# Altium schematic symbol library Library_Diana.SchLib: 310 symbols (part 3 of 3)
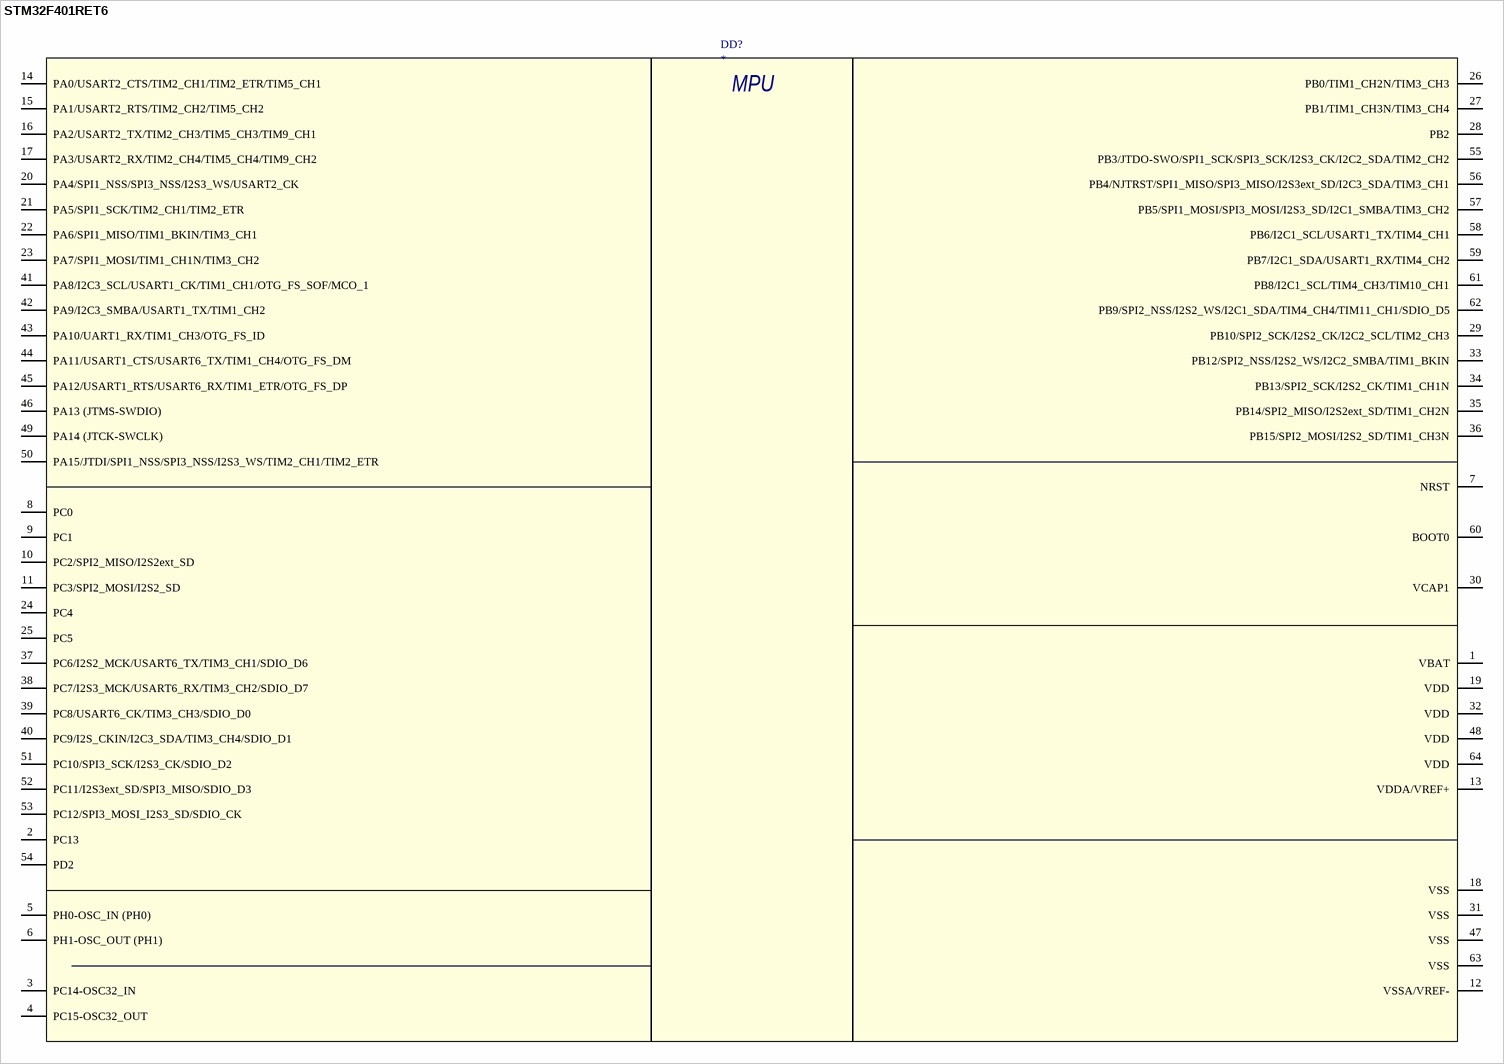
[diagram p42: symbol STM32F401RET6]

## STM32F401RET6
designator DD?
32-битный микроконтроллер
pins: 1 VBAT, 2 PC13, 3 PC14-OSC32_IN, 4 PC15-OSC32_OUT, 5 PH0-OSC_IN (PH0), 6 PH1-OSC_OUT (PH1), 7 NRST, 8 PC0, 9 PC1, 10 PC2/SPI2_MISO/I2S2ext_SD, 11 PC3/SPI2_MOSI/I2S2_SD, 12 VSSA/VREF-, 13 VDDA/VREF+, 14 PA0/USART2_CTS/TIM2_CH1/TIM2_ETR/TIM5_CH1, 15 PA1/USART2_RTS/TIM2_CH2/TIM5_CH2, 16 PA2/USART2_TX/TIM2_CH3/TIM5_CH3/TIM9_CH1, 17 PA3/USART2_RX/TIM2_CH4/TIM5_CH4/TIM9_CH2, 18 VSS, 19 VDD, 20 PA4/SPI1_NSS/SPI3_NSS/I2S3_WS/USART2_CK, 21 PA5/SPI1_SCK/TIM2_CH1/TIM2_ETR, 22 PA6/SPI1_MISO/TIM1_BKIN/TIM3_CH1, 23 PA7/SPI1_MOSI/TIM1_CH1N/TIM3_CH2, 24 PC4, 25 PC5, 26 PB0/TIM1_CH2N/TIM3_CH3, 27 PB1/TIM1_CH3N/TIM3_CH4, 28 PB2, 29 PB10/SPI2_SCK/I2S2_CK/I2C2_SCL/TIM2_CH3, 30 VCAP1, 31 VSS, 32 VDD, 33 PB12/SPI2_NSS/I2S2_WS/I2C2_SMBA/TIM1_BKIN, 34 PB13/SPI2_SCK/I2S2_CK/TIM1_CH1N, 35 PB14/SPI2_MISO/I2S2ext_SD/TIM1_CH2N, 36 PB15/SPI2_MOSI/I2S2_SD/TIM1_CH3N, 37 PC6/I2S2_MCK/USART6_TX/TIM3_CH1/SDIO_D6, 38 PC7/I2S3_MCK/USART6_RX/TIM3_CH2/SDIO_D7, 39 PC8/USART6_CK/TIM3_CH3/SDIO_D0, 40 PC9/I2S_CKIN/I2C3_SDA/TIM3_CH4/SDIO_D1, 41 PA8/I2C3_SCL/USART1_CK/TIM1_CH1/OTG_FS_SOF/MCO_1, 42 PA9/I2C3_SMBA/USART1_TX/TIM1_CH2, 43 PA10/UART1_RX/TIM1_CH3/OTG_FS_ID, 44 PA11/USART1_CTS/USART6_TX/TIM1_CH4/OTG_FS_DM, 45 PA12/USART1_RTS/USART6_RX/TIM1_ETR/OTG_FS_DP, 46 PA13 (JTMS-SWDIO), 47 VSS, 48 VDD, 49 PA14 (JTCK-SWCLK), 50 PA15/JTDI/SPI1_NSS/SPI3_NSS/I2S3_WS/TIM2_CH1/TIM2_ETR, 51 PC10/SPI3_SCK/I2S3_CK/SDIO_D2, 52 PC11/I2S3ext_SD/SPI3_MISO/SDIO_D3, 53 PC12/SPI3_MOSI_I2S3_SD/SDIO_CK, 54 PD2, 55 PB3/JTDO-SWO/SPI1_SCK/SPI3_SCK/I2S3_CK/I2C2_SDA/TIM2_CH2, 56 PB4/NJTRST/SPI1_MISO/SPI3_MISO/I2S3ext_SD/I2C3_SDA/TIM3_CH1, 57 PB5/SPI1_MOSI/SPI3_MOSI/I2S3_SD/I2C1_SMBA/TIM3_CH2, 58 PB6/I2C1_SCL/USART1_TX/TIM4_CH1, 59 PB7/I2C1_SDA/USART1_RX/TIM4_CH2, 60 BOOT0, 61 PB8/I2C1_SCL/TIM4_CH3/TIM10_CH1, 62 PB9/SPI2_NSS/I2S2_WS/I2C1_SDA/TIM4_CH4/TIM11_CH1/SDIO_D5, 63 VSS, 64 VDD
text: MPU

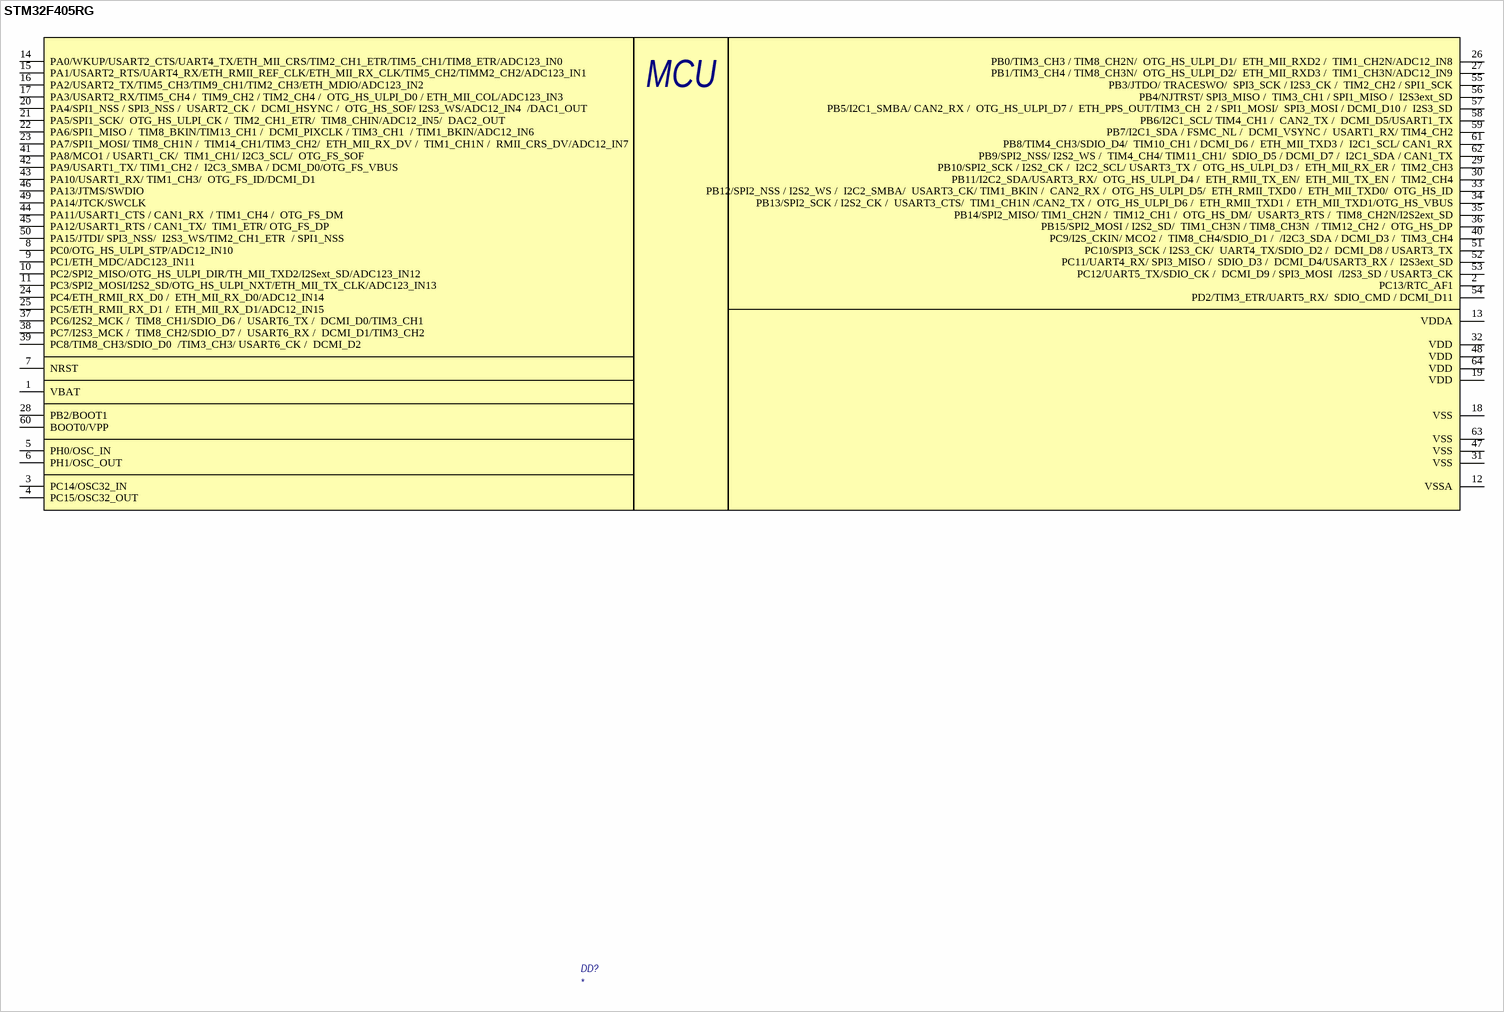
[diagram p32: symbol STM32F405RG]

## STM32F405RG
designator DD?
Микроконтроллер Cortex-M4
footprint LQFP64_L (TSQFP, 64-Leads, Body 10,00x10,00mm, Pitch 0,50mm, IPC Medium Density)
footprint LQFP64_H (64-Pin Low Profile Quad Pack 0.5 mm Pitch, IPC High Density)
pins: 1 VBAT, 2 PC13/RTC_AF1, 3 PC14/OSC32_IN, 4 PC15/OSC32_OUT, 5 PH0/OSC_IN, 6 PH1/OSC_OUT, 7 NRST, 8 PC0/OTG_HS_ULPI_STP/ADC12_IN10, 9 PC1/ETH_MDC/ADC123_IN11, 10 PC2/SPI2_MISO/OTG_HS_ULPI_DIR/TH_MII_TXD2/I2Sext_SD/ADC123_IN12, 11 PC3/SPI2_MOSI/I2S2_SD/OTG_HS_ULPI_NXT/ETH_MII_TX_CLK/ADC123_IN13, 12 VSSA, 13 VDDA, 14 PA0/WKUP/USART2_CTS/UART4_TX/ETH_MII_CRS/TIM2_CH1_ETR/TIM5_CH1/TIM8_ETR/ADC123_IN0, 15 PA1/USART2_RTS/UART4_RX/ETH_RMII_REF_CLK/ETH_MII_RX_CLK/TIM5_CH2/TIMM2_CH2/ADC123_IN1, 16 PA2/USART2_TX/TIM5_CH3/TIM9_CH1/TIM2_CH3/ETH_MDIO/ADC123_IN2, 17 PA3/USART2_RX/TIM5_CH4 /  TIM9_CH2 / TIM2_CH4 /  OTG_HS_ULPI_D0 / ETH_MII_COL/ADC123_IN3, 18 VSS, 19 VDD, 20 PA4/SPI1_NSS / SPI3_NSS /  USART2_CK /  DCMI_HSYNC /  OTG_HS_SOF/ I2S3_WS/ADC12_IN4  /DAC1_OUT, 21 PA5/SPI1_SCK/  OTG_HS_ULPI_CK /  TIM2_CH1_ETR/  TIM8_CHIN/ADC12_IN5/  DAC2_OUT, 22 PA6/SPI1_MISO /  TIM8_BKIN/TIM13_CH1 /  DCMI_PIXCLK / TIM3_CH1  / TIM1_BKIN/ADC12_IN6, 23 PA7/SPI1_MOSI/ TIM8_CH1N /  TIM14_CH1/TIM3_CH2/  ETH_MII_RX_DV /  TIM1_CH1N /  RMII_CRS_DV/ADC12_IN7, 24 PC4/ETH_RMII_RX_D0 /  ETH_MII_RX_D0/ADC12_IN14, 25 PC5/ETH_RMII_RX_D1 /  ETH_MII_RX_D1/ADC12_IN15, 26 PB0/TIM3_CH3 / TIM8_CH2N/  OTG_HS_ULPI_D1/  ETH_MII_RXD2 /  TIM1_CH2N/ADC12_IN8, 27 PB1/TIM3_CH4 / TIM8_CH3N/  OTG_HS_ULPI_D2/  ETH_MII_RXD3 /  TIM1_CH3N/ADC12_IN9, 28 PB2/BOOT1, 29 PB10/SPI2_SCK / I2S2_CK /  I2C2_SCL/ USART3_TX /  OTG_HS_ULPI_D3 /  ETH_MII_RX_ER /  TIM2_CH3, 30 PB11/I2C2_SDA/USART3_RX/  OTG_HS_ULPI_D4 /  ETH_RMII_TX_EN/  ETH_MII_TX_EN /  TIM2_CH4, 31 VSS, 32 VDD, 33 PB12/SPI2_NSS / I2S2_WS /  I2C2_SMBA/  USART3_CK/ TIM1_BKIN /  CAN2_RX /  OTG_HS_ULPI_D5/  ETH_RMII_TXD0 /  ETH_MII_TXD0/  OTG_HS_ID, 34 PB13/SPI2_SCK / I2S2_CK /  USART3_CTS/  TIM1_CH1N /CAN2_TX /  OTG_HS_ULPI_D6 /  ETH_RMII_TXD1 /  ETH_MII_TXD1/OTG_HS_VBUS, 35 PB14/SPI2_MISO/ TIM1_CH2N /  TIM12_CH1 /  OTG_HS_DM/  USART3_RTS /  TIM8_CH2N/I2S2ext_SD, 36 PB15/SPI2_MOSI / I2S2_SD/  TIM1_CH3N / TIM8_CH3N  / TIM12_CH2 /  OTG_HS_DP, 37 PC6/I2S2_MCK /  TIM8_CH1/SDIO_D6 /  USART6_TX /  DCMI_D0/TIM3_CH1, 38 PC7/I2S3_MCK /  TIM8_CH2/SDIO_D7 /  USART6_RX /  DCMI_D1/TIM3_CH2, 39 PC8/TIM8_CH3/SDIO_D0  /TIM3_CH3/ USART6_CK /  DCMI_D2, 40 PC9/I2S_CKIN/ MCO2 /  TIM8_CH4/SDIO_D1 /  /I2C3_SDA / DCMI_D3 /  TIM3_CH4, 41 PA8/MCO1 / USART1_CK/  TIM1_CH1/ I2C3_SCL/  OTG_FS_SOF, 42 PA9/USART1_TX/ TIM1_CH2 /  I2C3_SMBA / DCMI_D0/OTG_FS_VBUS, 43 PA10/USART1_RX/ TIM1_CH3/  OTG_FS_ID/DCMI_D1, 44 PA11/USART1_CTS / CAN1_RX  / TIM1_CH4 /  OTG_FS_DM, 45 PA12/USART1_RTS / CAN1_TX/  TIM1_ETR/ OTG_FS_DP, 46 PA13/JTMS/SWDIO, 47 VSS, 48 VDD, 49 PA14/JTCK/SWCLK, 50 PA15/JTDI/ SPI3_NSS/  I2S3_WS/TIM2_CH1_ETR  / SPI1_NSS, 51 PC10/SPI3_SCK / I2S3_CK/  UART4_TX/SDIO_D2 /  DCMI_D8 / USART3_TX, 52 PC11/UART4_RX/ SPI3_MISO /  SDIO_D3 /  DCMI_D4/USART3_RX /  I2S3ext_SD, 53 PC12/UART5_TX/SDIO_CK /  DCMI_D9 / SPI3_MOSI  /I2S3_SD / USART3_CK, 54 PD2/TIM3_ETR/UART5_RX/  SDIO_CMD / DCMI_D11, 55 PB3/JTDO/ TRACESWO/  SPI3_SCK / I2S3_CK /  TIM2_CH2 / SPI1_SCK, 56 PB4/NJTRST/ SPI3_MISO /  TIM3_CH1 / SPI1_MISO /  I2S3ext_SD, 57 PB5/I2C1_SMBA/ CAN2_RX /  OTG_HS_ULPI_D7 /  ETH_PPS_OUT/TIM3_CH  2 / SPI1_MOSI/  SPI3_MOSI / DCMI_D10 /  I2S3_SD, 58 PB6/I2C1_SCL/ TIM4_CH1 /  CAN2_TX /  DCMI_D5/USART1_TX, 59 PB7/I2C1_SDA / FSMC_NL /  DCMI_VSYNC /  USART1_RX/ TIM4_CH2, 60 BOOT0/VPP, 61 PB8/TIM4_CH3/SDIO_D4/  TIM10_CH1 / DCMI_D6 /  ETH_MII_TXD3 /  I2C1_SCL/ CAN1_RX, 62 PB9/SPI2_NSS/ I2S2_WS /  TIM4_CH4/ TIM11_CH1/  SDIO_D5 / DCMI_D7 /  I2C1_SDA / CAN1_TX, 63 VSS, 64 VDD
text: MCU

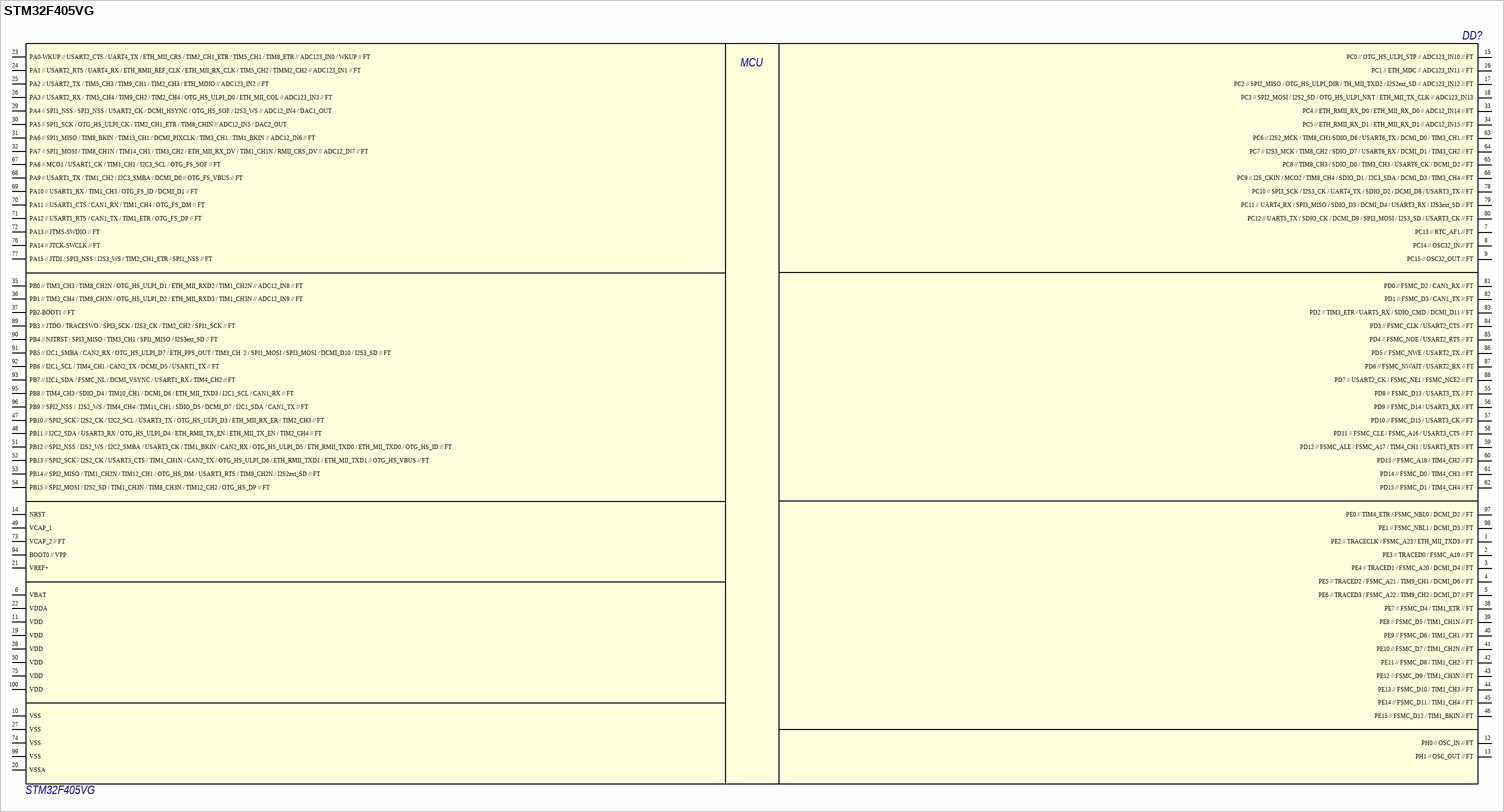
[diagram p33: symbol STM32F405VG]

## STM32F405VG
designator DD?
Manufacture: STMicroelectronics; Name: STM32F405VG; Package: LQFP100
footprint LQFP100_A
pins: 1 PE2 // TRACECLK / FSMC_A23 / ETH_MII_TXD3 // FT, 2 PE3 // TRACED0 / FSMC_A19 // FT, 3 PE4 // TRACED1 / FSMC_A20 / DCMI_D4 // FT, 4 PE5 // TRACED2 / FSMC_A21 / TIM9_CH1 / DCMI_D6 // FT, 5 PE6 // TRACED3 / FSMC_A22 / TIM9_CH2 / DCMI_D7 // FT, 6 VBAT, 7 PC13 // RTC_AF1 // FT, 8 PC14 // OSC32_IN // FT, 9 PC15 // OSC32_OUT // FT, 10 VSS, 11 VDD, 12 PH0 // OSC_IN // FT, 13 PH1 // OSC_OUT // FT, 14 NRST, 15 PC0 // OTG_HS_ULPI_STP // ADC123_IN10 // FT, 16 PC1 // ETH_MDC // ADC123_IN11 // FT, 17 PC2 // SPI2_MISO / OTG_HS_ULPI_DIR / TH_MII_TXD2 / I2S2ext_SD // ADC123_IN12 // FT, 18 PC3 // SPI2_MOSI / I2S2_SD / OTG_HS_ULPI_NXT / ETH_MII_TX_CLK // ADC123_IN13, 19 VDD, 20 VSSA, 21 VREF+, 22 VDDA, 23 PA0-WKUP // USART2_CTS / UART4_TX / ETH_MII_CRS / TIM2_CH1_ETR / TIM5_CH1 / TIM8_ETR // ADC123_IN0 / WKUP // FT, 24 PA1 // USART2_RTS / UART4_RX / ETH_RMII_REF_CLK / ETH_MII_RX_CLK / TIM5_CH2 / TIMM2_CH2 // ADC123_IN1 // FT, 25 PA2 // USART2_TX / TIM5_CH3 / TIM9_CH1 / TIM2_CH3 / ETH_MDIO // ADC123_IN2 // FT, 26 PA3 // USART2_RX / TIM5_CH4 / TIM9_CH2 / TIM2_CH4 / OTG_HS_ULPI_D0 / ETH_MII_COL // ADC123_IN3 // FT, 27 VSS, 28 VDD, 29 PA4 // SPI1_NSS / SPI3_NSS / USART2_CK / DCMI_HSYNC / OTG_HS_SOF / I2S3_WS // ADC12_IN4 / DAC1_OUT, 30 PA5 // SPI1_SCK / OTG_HS_ULPI_CK / TIM2_CH1_ETR / TIM8_CHIN // ADC12_IN5 / DAC2_OUT, 31 PA6 // SPI1_MISO / TIM8_BKIN / TIM13_CH1 / DCMI_PIXCLK / TIM3_CH1 / TIM1_BKIN // ADC12_IN6 // FT, 32 PA7 // SPI1_MOSI / TIM8_CH1N / TIM14_CH1 / TIM3_CH2 / ETH_MII_RX_DV / TIM1_CH1N / RMII_CRS_DV // ADC12_IN7 // FT, 33 PC4 // ETH_RMII_RX_D0 / ETH_MII_RX_D0 // ADC12_IN14 // FT, 34 PC5 // ETH_RMII_RX_D1 / ETH_MII_RX_D1 // ADC12_IN15 // FT, 35 PB0 // TIM3_CH3 / TIM8_CH2N / OTG_HS_ULPI_D1 / ETH_MII_RXD2 / TIM1_CH2N // ADC12_IN8 // FT, 36 PB1 // TIM3_CH4 / TIM8_CH3N / OTG_HS_ULPI_D2 / ETH_MII_RXD3 / TIM1_CH3N // ADC12_IN9 // FT, 37 PB2-BOOT1 // FT, 38 PE7 // FSMC_D4 / TIM1_ETR // FT, 39 PE8 // FSMC_D5 / TIM1_CH1N // FT, 40 PE9 // FSMC_D6 / TIM1_CH1 // FT, 41 PE10 // FSMC_D7 / TIM1_CH2N // FT, 42 PE11 // FSMC_D8 / TIM1_CH2 // FT, 43 PE12 // FSMC_D9 / TIM1_CH3N // FT, 44 PE13 // FSMC_D10 / TIM1_CH3 // FT, 45 PE14 // FSMC_D11 / TIM1_CH4 // FT, 46 PE15 // FSMC_D12 / TIM1_BKIN // FT, 47 PB10 // SPI2_SCK / I2S2_CK / I2C2_SCL / USART3_TX / OTG_HS_ULPI_D3 / ETH_MII_RX_ER / TIM2_CH3 // FT, 48 PB11 // I2C2_SDA / USART3_RX / OTG_HS_ULPI_D4 / ETH_RMII_TX_EN / ETH_MII_TX_EN / TIM2_CH4 // FT, 49 VCAP_1, 50 VDD, 51 PB12 // SPI2_NSS / I2S2_WS / I2C2_SMBA / USART3_CK / TIM1_BKIN / CAN2_RX / OTG_HS_ULPI_D5 / ETH_RMII_TXD0 / ETH_MII_TXD0 / OTG_HS_ID // FT, 52 PB13 // SPI2_SCK / I2S2_CK / USART3_CTS / TIM1_CH1N / CAN2_TX / OTG_HS_ULPI_D6 / ETH_RMII_TXD1 / ETH_MII_TXD1 // OTG_HS_VBUS // FT, 53 PB14 // SPI2_MISO / TIM1_CH2N / TIM12_CH1 / OTG_HS_DM / USART3_RTS / TIM8_CH2N / I2S2ext_SD // FT, 54 PB15 // SPI2_MOSI / I2S2_SD / TIM1_CH3N / TIM8_CH3N / TIM12_CH2 / OTG_HS_DP // FT, 55 PD8 // FSMC_D13 / USART3_TX // FT, 56 PD9 // FSMC_D14 / USART3_RX // FT, 57 PD10 // FSMC_D15 / USART3_CK // FT, 58 PD11 // FSMC_CLE / FSMC_A16 / USART3_CTS // FT, 59 PD12 // FSMC_ALE / FSMC_A17 / TIM4_CH1 / USART3_RTS // FT, 60 PD13 // FSMC_A18 / TIM4_CH2 // FT, 61 PD14 // FSMC_D0 / TIM4_CH3 // FT, 62 PD15 // FSMC_D1 / TIM4_CH4 // FT, 63 PC6 // I2S2_MCK / TIM8_CH1/SDIO_D6 / USART6_TX / DCMI_D0 / TIM3_CH1 // FT, 64 PC7 // I2S3_MCK / TIM8_CH2 / SDIO_D7 / USART6_RX / DCMI_D1 / TIM3_CH2 // FT, 65 PC8 // TIM8_CH3 / SDIO_D0 / TIM3_CH3 / USART6_CK / DCMI_D2 // FT, 66 PC9 // I2S_CKIN / MCO2 / TIM8_CH4 / SDIO_D1 / I2C3_SDA / DCMI_D3 / TIM3_CH4 // FT, 67 PA8 // MCO1 / USART1_CK / TIM1_CH1 / I2C3_SCL / OTG_FS_SOF // FT, 68 PA9 // USART1_TX / TIM1_CH2 / I2C3_SMBA / DCMI_D0 // OTG_FS_VBUS // FT, 69 PA10 // USART1_RX / TIM1_CH3 / OTG_FS_ID / DCMI_D1 // FT, 70 PA11 // USART1_CTS / CAN1_RX / TIM1_CH4 / OTG_FS_DM // FT, 71 PA12 // USART1_RTS / CAN1_TX / TIM1_ETR / OTG_FS_DP // FT, 72 PA13 // JTMS-SWDIO // FT, 73 VCAP_2 // FT, 74 VSS, 75 VDD, 76 PA14 // JTCK-SWCLK // FT, 77 PA15 // JTDI / SPI3_NSS / I2S3_WS / TIM2_CH1_ETR / SPI1_NSS // FT, 78 PC10 // SPI3_SCK / I2S3_CK / UART4_TX / SDIO_D2 / DCMI_D8 / USART3_TX // FT, 79 PC11 // UART4_RX / SPI3_MISO / SDIO_D3 / DCMI_D4 / USART3_RX / I2S3ext_SD // FT, 80 PC12 // UART5_TX / SDIO_CK / DCMI_D9 / SPI3_MOSI / I2S3_SD / USART3_CK // FT, 81 PD0 // FSMC_D2 / CAN1_RX // FT, 82 PD1 // FSMC_D3 / CAN1_TX // FT, 83 PD2 // TIM3_ETR / UART5_RX / SDIO_CMD / DCMI_D11 // FT, 84 PD3 // FSMC_CLK / USART2_CTS // FT, 85 PD4 // FSMC_NOE / USART2_RTS // FT, 86 PD5 // FSMC_NWE / USART2_TX // FT, 87 PD6 // FSMC_NWAIT / USART2_RX // FT, 88 PD7 // USART2_CK / FSMC_NE1 / FSMC_NCE2 // FT, 89 PB3 // JTDO / TRACESWO / SPI3_SCK / I2S3_CK / TIM2_CH2 / SPI1_SCK // FT, 90 PB4 // NJTRST / SPI3_MISO / TIM3_CH1 / SPI1_MISO / I2S3ext_SD // FT, 91 PB5 // I2C1_SMBA / CAN2_RX / OTG_HS_ULPI_D7 / ETH_PPS_OUT / TIM3_CH  2 / SPI1_MOSI / SPI3_MOSI / DCMI_D10 / I2S3_SD // FT, 92 PB6 // I2C1_SCL / TIM4_CH1 / CAN2_TX / DCMI_D5 / USART1_TX // FT, 93 PB7 // I2C1_SDA / FSMC_NL / DCMI_VSYNC / USART1_RX / TIM4_CH2 // FT, 94 BOOT0 // VPP, 95 PB8 // TIM4_CH3 / SDIO_D4 / TIM10_CH1 / DCMI_D6 / ETH_MII_TXD3 / I2C1_SCL / CAN1_RX // FT, 96 PB9 // SPI2_NSS /  I2S2_WS / TIM4_CH4 / TIM11_CH1 / SDIO_D5 / DCMI_D7 / I2C1_SDA / CAN1_TX // FT, 97 PE0 // TIM4_ETR / FSMC_NBL0 / DCMI_D2 // FT, 98 PE1 // FSMC_NBL1 / DCMI_D3 // FT, 99 VSS, 100 VDD
text: MCU

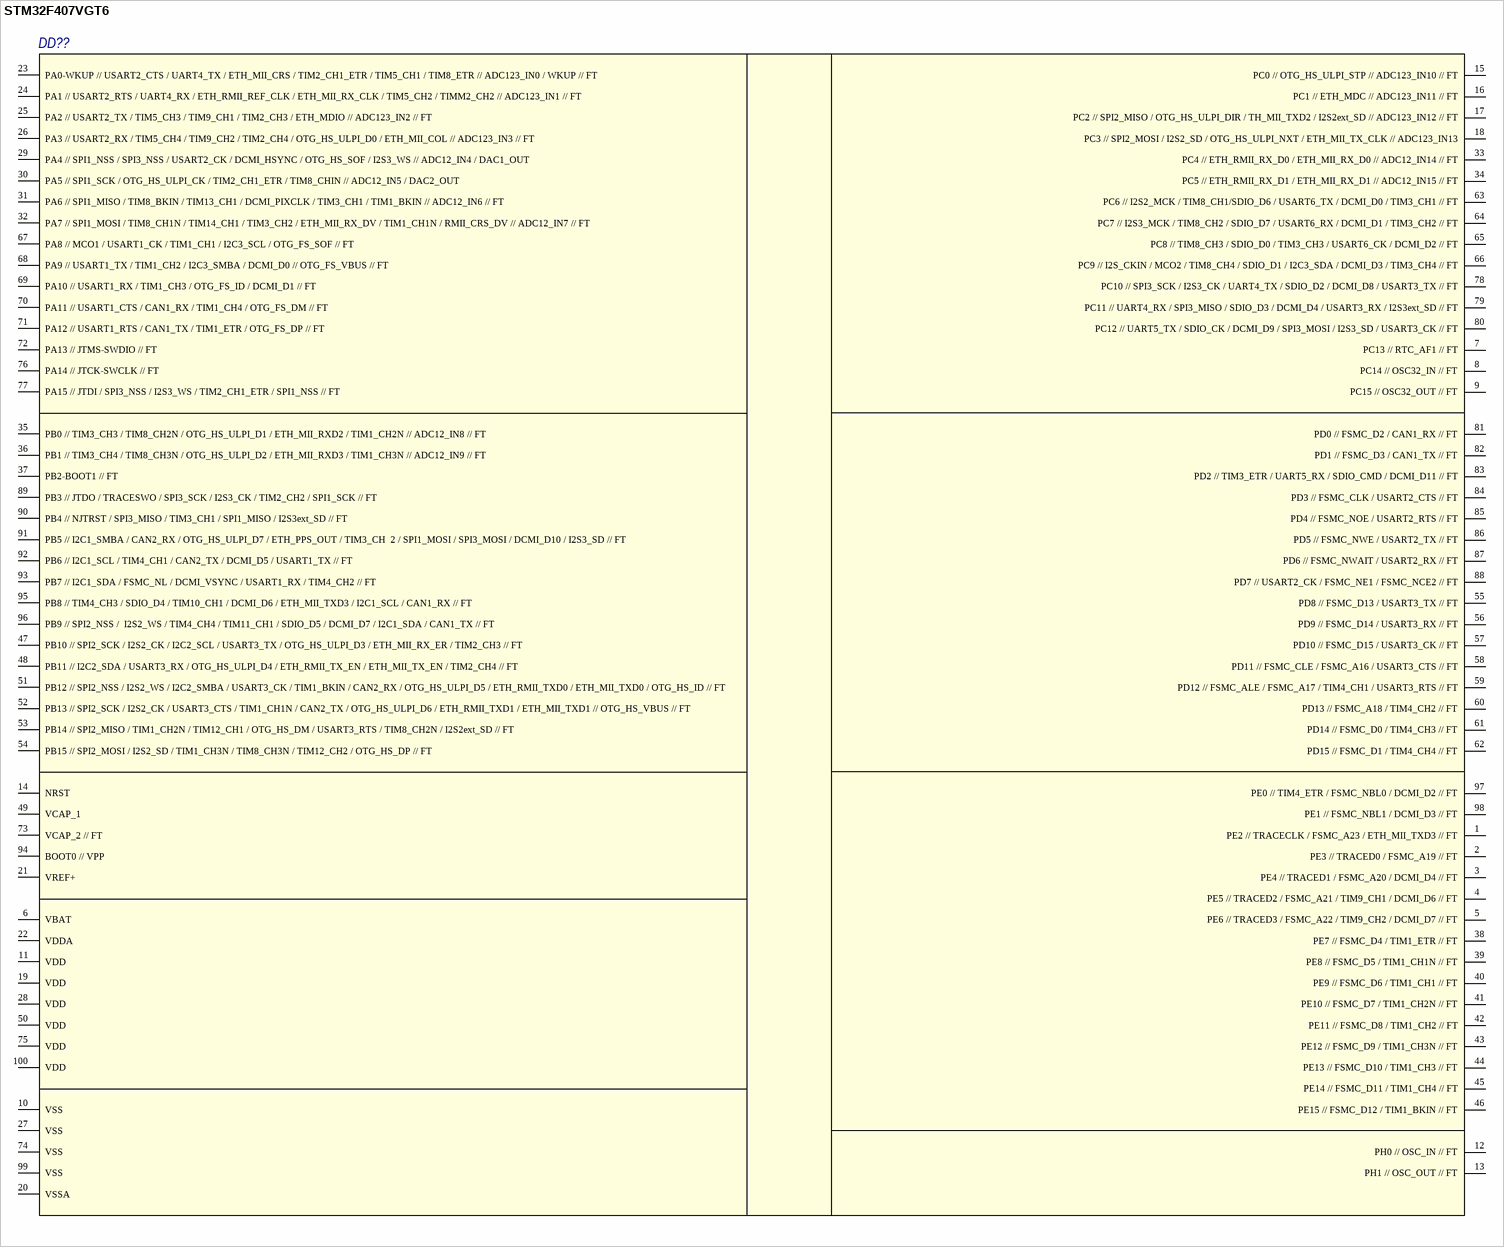
[diagram p34: symbol STM32F407VGT6]

## STM32F407VGT6
designator DD??
Микроконтроллер
footprint LQPF100_A
footprint LQPF100_H
pins: 1 PE2 // TRACECLK / FSMC_A23 / ETH_MII_TXD3 // FT, 2 PE3 // TRACED0 / FSMC_A19 // FT, 3 PE4 // TRACED1 / FSMC_A20 / DCMI_D4 // FT, 4 PE5 // TRACED2 / FSMC_A21 / TIM9_CH1 / DCMI_D6 // FT, 5 PE6 // TRACED3 / FSMC_A22 / TIM9_CH2 / DCMI_D7 // FT, 6 VBAT, 7 PC13 // RTC_AF1 // FT, 8 PC14 // OSC32_IN // FT, 9 PC15 // OSC32_OUT // FT, 10 VSS, 11 VDD, 12 PH0 // OSC_IN // FT, 13 PH1 // OSC_OUT // FT, 14 NRST, 15 PC0 // OTG_HS_ULPI_STP // ADC123_IN10 // FT, 16 PC1 // ETH_MDC // ADC123_IN11 // FT, 17 PC2 // SPI2_MISO / OTG_HS_ULPI_DIR / TH_MII_TXD2 / I2S2ext_SD // ADC123_IN12 // FT, 18 PC3 // SPI2_MOSI / I2S2_SD / OTG_HS_ULPI_NXT / ETH_MII_TX_CLK // ADC123_IN13, 19 VDD, 20 VSSA, 21 VREF+, 22 VDDA, 23 PA0-WKUP // USART2_CTS / UART4_TX / ETH_MII_CRS / TIM2_CH1_ETR / TIM5_CH1 / TIM8_ETR // ADC123_IN0 / WKUP // FT , 24 PA1 // USART2_RTS / UART4_RX / ETH_RMII_REF_CLK / ETH_MII_RX_CLK / TIM5_CH2 / TIMM2_CH2 // ADC123_IN1 // FT, 25 PA2 // USART2_TX / TIM5_CH3 / TIM9_CH1 / TIM2_CH3 / ETH_MDIO // ADC123_IN2 // FT, 26 PA3 // USART2_RX / TIM5_CH4 / TIM9_CH2 / TIM2_CH4 / OTG_HS_ULPI_D0 / ETH_MII_COL // ADC123_IN3 // FT, 27 VSS, 28 VDD, 29 PA4 // SPI1_NSS / SPI3_NSS / USART2_CK / DCMI_HSYNC / OTG_HS_SOF / I2S3_WS // ADC12_IN4 / DAC1_OUT , 30 PA5 // SPI1_SCK / OTG_HS_ULPI_CK / TIM2_CH1_ETR / TIM8_CHIN // ADC12_IN5 / DAC2_OUT, 31 PA6 // SPI1_MISO / TIM8_BKIN / TIM13_CH1 / DCMI_PIXCLK / TIM3_CH1 / TIM1_BKIN // ADC12_IN6 // FT, 32 PA7 // SPI1_MOSI / TIM8_CH1N / TIM14_CH1 / TIM3_CH2 / ETH_MII_RX_DV / TIM1_CH1N / RMII_CRS_DV // ADC12_IN7 // FT, 33 PC4 // ETH_RMII_RX_D0 / ETH_MII_RX_D0 // ADC12_IN14 // FT, 34 PC5 // ETH_RMII_RX_D1 / ETH_MII_RX_D1 // ADC12_IN15 // FT, 35 PB0 // TIM3_CH3 / TIM8_CH2N / OTG_HS_ULPI_D1 / ETH_MII_RXD2 / TIM1_CH2N // ADC12_IN8 // FT, 36 PB1 // TIM3_CH4 / TIM8_CH3N / OTG_HS_ULPI_D2 / ETH_MII_RXD3 / TIM1_CH3N // ADC12_IN9 // FT, 37 PB2-BOOT1 // FT, 38 PE7 // FSMC_D4 / TIM1_ETR // FT, 39 PE8 // FSMC_D5 / TIM1_CH1N // FT, 40 PE9 // FSMC_D6 / TIM1_CH1 // FT, 41 PE10 // FSMC_D7 / TIM1_CH2N // FT, 42 PE11 // FSMC_D8 / TIM1_CH2 // FT, 43 PE12 // FSMC_D9 / TIM1_CH3N // FT, 44 PE13 // FSMC_D10 / TIM1_CH3 // FT, 45 PE14 // FSMC_D11 / TIM1_CH4 // FT, 46 PE15 // FSMC_D12 / TIM1_BKIN // FT, 47 PB10 // SPI2_SCK / I2S2_CK / I2C2_SCL / USART3_TX / OTG_HS_ULPI_D3 / ETH_MII_RX_ER / TIM2_CH3 // FT, 48 PB11 // I2C2_SDA / USART3_RX / OTG_HS_ULPI_D4 / ETH_RMII_TX_EN / ETH_MII_TX_EN / TIM2_CH4 // FT, 49 VCAP_1, 50 VDD, 51 PB12 // SPI2_NSS / I2S2_WS / I2C2_SMBA / USART3_CK / TIM1_BKIN / CAN2_RX / OTG_HS_ULPI_D5 / ETH_RMII_TXD0 / ETH_MII_TXD0 / OTG_HS_ID // FT, 52 PB13 // SPI2_SCK / I2S2_CK / USART3_CTS / TIM1_CH1N / CAN2_TX / OTG_HS_ULPI_D6 / ETH_RMII_TXD1 / ETH_MII_TXD1 // OTG_HS_VBUS // FT, 53 PB14 // SPI2_MISO / TIM1_CH2N / TIM12_CH1 / OTG_HS_DM / USART3_RTS / TIM8_CH2N / I2S2ext_SD // FT, 54 PB15 // SPI2_MOSI / I2S2_SD / TIM1_CH3N / TIM8_CH3N / TIM12_CH2 / OTG_HS_DP // FT, 55 PD8 // FSMC_D13 / USART3_TX // FT, 56 PD9 // FSMC_D14 / USART3_RX // FT, 57 PD10 // FSMC_D15 / USART3_CK // FT, 58 PD11 // FSMC_CLE / FSMC_A16 / USART3_CTS // FT, 59 PD12 // FSMC_ALE / FSMC_A17 / TIM4_CH1 / USART3_RTS // FT, 60 PD13 // FSMC_A18 / TIM4_CH2 // FT, 61 PD14 // FSMC_D0 / TIM4_CH3 // FT, 62 PD15 // FSMC_D1 / TIM4_CH4 // FT, 63 PC6 // I2S2_MCK / TIM8_CH1/SDIO_D6 / USART6_TX / DCMI_D0 / TIM3_CH1 // FT, 64 PC7 // I2S3_MCK / TIM8_CH2 / SDIO_D7 / USART6_RX / DCMI_D1 / TIM3_CH2 // FT, 65 PC8 // TIM8_CH3 / SDIO_D0 / TIM3_CH3 / USART6_CK / DCMI_D2 // FT, 66 PC9 // I2S_CKIN / MCO2 / TIM8_CH4 / SDIO_D1 / I2C3_SDA / DCMI_D3 / TIM3_CH4 // FT, 67 PA8 // MCO1 / USART1_CK / TIM1_CH1 / I2C3_SCL / OTG_FS_SOF // FT, 68 PA9 // USART1_TX / TIM1_CH2 / I2C3_SMBA / DCMI_D0 // OTG_FS_VBUS // FT , 69 PA10 // USART1_RX / TIM1_CH3 / OTG_FS_ID / DCMI_D1 // FT, 70 PA11 // USART1_CTS / CAN1_RX / TIM1_CH4 / OTG_FS_DM // FT, 71 PA12 // USART1_RTS / CAN1_TX / TIM1_ETR / OTG_FS_DP // FT, 72 PA13 // JTMS-SWDIO // FT, 73 VCAP_2 // FT, 74 VSS, 75 VDD, 76 PA14 // JTCK-SWCLK // FT, 77 PA15 // JTDI / SPI3_NSS / I2S3_WS / TIM2_CH1_ETR / SPI1_NSS // FT, 78 PC10 // SPI3_SCK / I2S3_CK / UART4_TX / SDIO_D2 / DCMI_D8 / USART3_TX // FT, 79 PC11 // UART4_RX / SPI3_MISO / SDIO_D3 / DCMI_D4 / USART3_RX / I2S3ext_SD // FT, 80 PC12 // UART5_TX / SDIO_CK / DCMI_D9 / SPI3_MOSI / I2S3_SD / USART3_CK // FT, 81 PD0 // FSMC_D2 / CAN1_RX // FT, 82 PD1 // FSMC_D3 / CAN1_TX // FT, 83 PD2 // TIM3_ETR / UART5_RX / SDIO_CMD / DCMI_D11 // FT, 84 PD3 // FSMC_CLK / USART2_CTS // FT, 85 PD4 // FSMC_NOE / USART2_RTS // FT, 86 PD5 // FSMC_NWE / USART2_TX // FT, 87 PD6 // FSMC_NWAIT / USART2_RX // FT, 88 PD7 // USART2_CK / FSMC_NE1 / FSMC_NCE2 // FT, 89 PB3 // JTDO / TRACESWO / SPI3_SCK / I2S3_CK / TIM2_CH2 / SPI1_SCK // FT, 90 PB4 // NJTRST / SPI3_MISO / TIM3_CH1 / SPI1_MISO / I2S3ext_SD // FT, 91 PB5 // I2C1_SMBA / CAN2_RX / OTG_HS_ULPI_D7 / ETH_PPS_OUT / TIM3_CH  2 / SPI1_MOSI / SPI3_MOSI / DCMI_D10 / I2S3_SD // FT, 92 PB6 // I2C1_SCL / TIM4_CH1 / CAN2_TX / DCMI_D5 / USART1_TX // FT, 93 PB7 // I2C1_SDA / FSMC_NL / DCMI_VSYNC / USART1_RX / TIM4_CH2 // FT, 94 BOOT0 // VPP, 95 PB8 // TIM4_CH3 / SDIO_D4 / TIM10_CH1 / DCMI_D6 / ETH_MII_TXD3 / I2C1_SCL / CAN1_RX // FT, 96 PB9 // SPI2_NSS /  I2S2_WS / TIM4_CH4 / TIM11_CH1 / SDIO_D5 / DCMI_D7 / I2C1_SDA / CAN1_TX // FT, 97 PE0 // TIM4_ETR / FSMC_NBL0 / DCMI_D2 // FT, 98 PE1 // FSMC_NBL1 / DCMI_D3 // FT, 99 VSS, 100 VDD

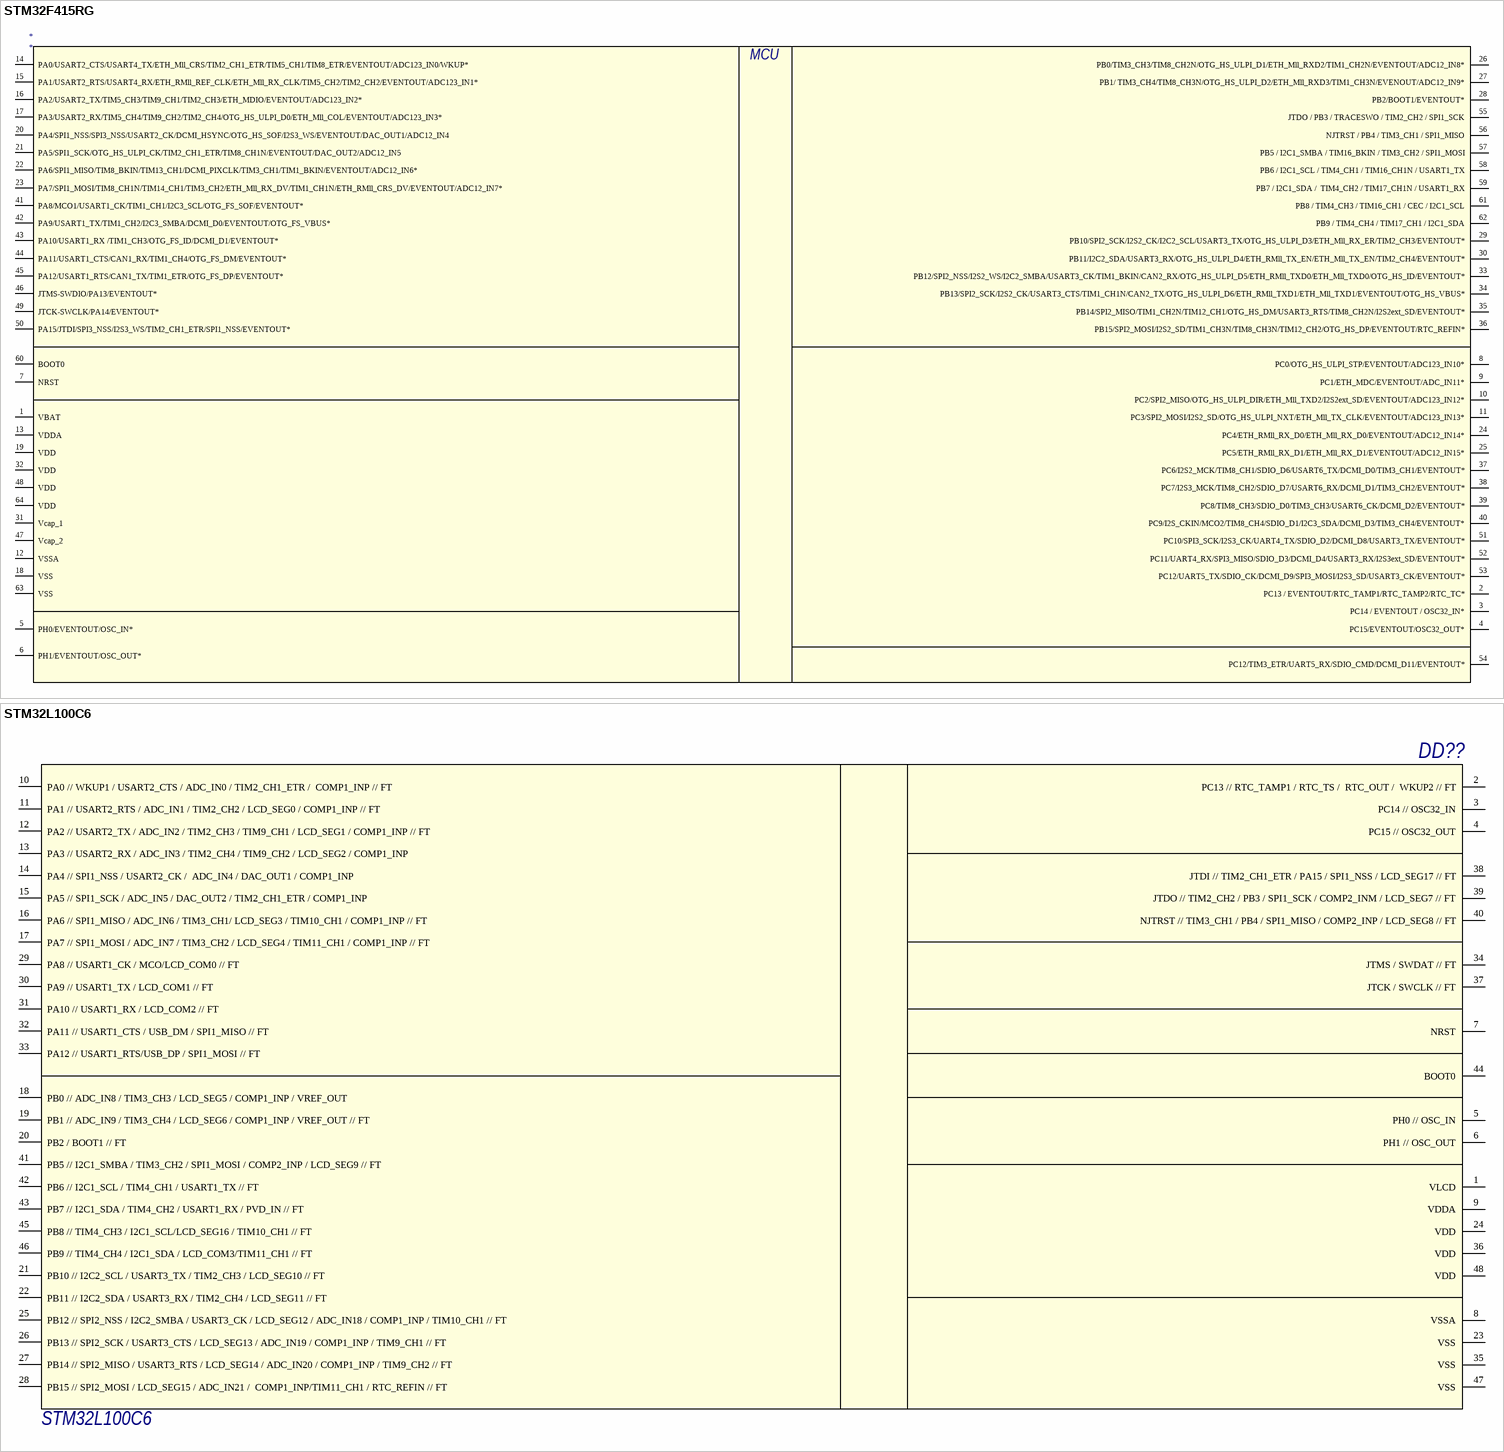
[diagram p35: symbols STM32F415RG to STM32L100C6]

## STM32F415RG
designator *
Микроконтроллер
footprint LQFP64_L (TSQFP, 64-Leads, Body 10,00x10,00mm, Pitch 0,50mm, IPC Medium Density)
footprint LQFP64_H (64-Pin Low Profile Quad Pack 0.5 mm Pitch, IPC High Density)
pins: 1 VBAT, 2 PC13 / EVENTOUT/RTC_TAMP1/RTC_TAMP2/RTC_TC*, 3 PC14 / EVENTOUT / OSC32_IN*, 4 PC15/EVENTOUT/OSC32_OUT*, 5 PH0/EVENTOUT/OSC_IN*, 6 PH1/EVENTOUT/OSC_OUT*, 7 NRST, 8 PC0/OTG_HS_ULPI_STP/EVENTOUT/ADC123_IN10*, 9 PC1/ETH_MDC/EVENTOUT/ADC_IN11*, 10 PC2/SPI2_MISO/OTG_HS_ULPI_DIR/ETH_Mll_TXD2/I2S2ext_SD/EVENTOUT/ADC123_IN12*, 11 PC3/SPI2_MOSI/I2S2_SD/OTG_HS_ULPI_NXT/ETH_Mll_TX_CLK/EVENTOUT/ADC123_IN13*, 12 VSSA, 13 VDDA, 14 PA0/USART2_CTS/USART4_TX/ETH_Mll_CRS/TIM2_CH1_ETR/TIM5_CH1/TIM8_ETR/EVENTOUT/ADC123_IN0/WKUP*, 15 PA1/USART2_RTS/USART4_RX/ETH_RMll_REF_CLK/ETH_Mll_RX_CLK/TIM5_CH2/TIM2_CH2/EVENTOUT/ADC123_IN1*, 16 PA2/USART2_TX/TIM5_CH3/TIM9_CH1/TIM2_CH3/ETH_MDIO/EVENTOUT/ADC123_IN2*, 17 PA3/USART2_RX/TIM5_CH4/TIM9_CH2/TIM2_CH4/OTG_HS_ULPI_D0/ETH_Mll_COL/EVENTOUT/ADC123_IN3*, 18 VSS, 19 VDD, 20 PA4/SPI1_NSS/SPI3_NSS/USART2_CK/DCMI_HSYNC/OTG_HS_SOF/I2S3_WS/EVENTOUT/DAC_OUT1/ADC12_IN4, 21 PA5/SPI1_SCK/OTG_HS_ULPI_CK/TIM2_CH1_ETR/TIM8_CH1N/EVENTOUT/DAC_OUT2/ADC12_IN5, 22 PA6/SPI1_MISO/TIM8_BKIN/TIM13_CH1/DCMI_PIXCLK/TIM3_CH1/TIM1_BKIN/EVENTOUT/ADC12_IN6*, 23 PA7/SPI1_MOSI/TIM8_CH1N/TIM14_CH1/TIM3_CH2/ETH_Mll_RX_DV/TIM1_CH1N/ETH_RMll_CRS_DV/EVENTOUT/ADC12_IN7*, 24 PC4/ETH_RMll_RX_D0/ETH_Mll_RX_D0/EVENTOUT/ADC12_IN14*, 25 PC5/ETH_RMll_RX_D1/ETH_Mll_RX_D1/EVENTOUT/ADC12_IN15*, 26 PB0/TIM3_CH3/TIM8_CH2N/OTG_HS_ULPI_D1/ETH_Mll_RXD2/TIM1_CH2N/EVENTOUT/ADC12_IN8*, 27 PB1/ TIM3_CH4/TIM8_CH3N/OTG_HS_ULPI_D2/ETH_Mll_RXD3/TIM1_CH3N/EVENOUT/ADC12_IN9*, 28 PB2/BOOT1/EVENTOUT*, 29 PB10/SPI2_SCK/I2S2_CK/I2C2_SCL/USART3_TX/OTG_HS_ULPI_D3/ETH_Mll_RX_ER/TIM2_CH3/EVENTOUT*, 30 PB11/I2C2_SDA/USART3_RX/OTG_HS_ULPI_D4/ETH_RMll_TX_EN/ETH_Mll_TX_EN/TIM2_CH4/EVENTOUT*, 31 Vcap_1, 32 VDD, 33 PB12/SPI2_NSS/I2S2_WS/I2C2_SMBA/USART3_CK/TIM1_BKIN/CAN2_RX/OTG_HS_ULPI_D5/ETH_RMll_TXD0/ETH_Mll_TXD0/OTG_HS_ID/EVENTOUT*, 34 PB13/SPI2_SCK/I2S2_CK/USART3_CTS/TIM1_CH1N/CAN2_TX/OTG_HS_ULPI_D6/ETH_RMll_TXD1/ETH_Mll_TXD1/EVENTOUT/OTG_HS_VBUS*, 35 PB14/SPI2_MISO/TIM1_CH2N/TIM12_CH1/OTG_HS_DM/USART3_RTS/TIM8_CH2N/I2S2ext_SD/EVENTOUT*, 36 PB15/SPI2_MOSI/I2S2_SD/TIM1_CH3N/TIM8_CH3N/TIM12_CH2/OTG_HS_DP/EVENTOUT/RTC_REFIN*, 37 PC6/I2S2_MCK/TIM8_CH1/SDIO_D6/USART6_TX/DCMI_D0/TIM3_CH1/EVENTOUT*, 38 PC7/I2S3_MCK/TIM8_CH2/SDIO_D7/USART6_RX/DCMI_D1/TIM3_CH2/EVENTOUT*, 39 PC8/TIM8_CH3/SDIO_D0/TIM3_CH3/USART6_CK/DCMI_D2/EVENTOUT*, 40 PC9/I2S_CKIN/MCO2/TIM8_CH4/SDIO_D1/I2C3_SDA/DCMI_D3/TIM3_CH4/EVENTOUT*, 41 PA8/MCO1/USART1_CK/TIM1_CH1/I2C3_SCL/OTG_FS_SOF/EVENTOUT*, 42 PA9/USART1_TX/TIM1_CH2/I2C3_SMBA/DCMI_D0/EVENTOUT/OTG_FS_VBUS*, 43 PA10/USART1_RX /TIM1_CH3/OTG_FS_ID/DCMI_D1/EVENTOUT*, 44 PA11/USART1_CTS/CAN1_RX/TIM1_CH4/OTG_FS_DM/EVENTOUT*, 45 PA12/USART1_RTS/CAN1_TX/TIM1_ETR/OTG_FS_DP/EVENTOUT*, 46 JTMS-SWDIO/PA13/EVENTOUT*, 47 Vcap_2, 48 VDD, 49 JTCK-SWCLK/PA14/EVENTOUT*, 50 PA15/JTDI/SPI3_NSS/I2S3_WS/TIM2_CH1_ETR/SPI1_NSS/EVENTOUT*, 51 PC10/SPI3_SCK/I2S3_CK/UART4_TX/SDIO_D2/DCMI_D8/USART3_TX/EVENTOUT*, 52 PC11/UART4_RX/SPI3_MISO/SDIO_D3/DCMI_D4/USART3_RX/I2S3ext_SD/EVENTOUT*, 53 PC12/UART5_TX/SDIO_CK/DCMI_D9/SPI3_MOSI/I2S3_SD/USART3_CK/EVENTOUT*, 54 PC12/TIM3_ETR/UART5_RX/SDIO_CMD/DCMI_D11/EVENTOUT*, 55 JTDO / PB3 / TRACESWO / TIM2_CH2 / SPI1_SCK, 56 NJTRST / PB4 / TIM3_CH1 / SPI1_MISO, 57 PB5 / I2C1_SMBA / TIM16_BKIN / TIM3_CH2 / SPI1_MOSI, 58 PB6 / I2C1_SCL / TIM4_CH1 / TIM16_CH1N / USART1_TX, 59 PB7 / I2C1_SDA /  TIM4_CH2 / TIM17_CH1N / USART1_RX, 60 BOOT0, 61 PB8 / TIM4_CH3 / TIM16_CH1 / CEC / I2C1_SCL, 62 PB9 / TIM4_CH4 / TIM17_CH1 / I2C1_SDA, 63 VSS, 64 VDD
text: MCU

## STM32L100C6
designator DD??
Микроконтроллер; Name: STM32L100C6
footprint VFQFN48
pins: 1 VLCD, 2 PC13 // RTC_TAMP1 / RTC_TS /  RTC_OUT /  WKUP2 // FT, 3 PC14 // OSC32_IN, 4 PC15 // OSC32_OUT, 5 PH0 // OSC_IN, 6 PH1 // OSC_OUT, 7 NRST, 8 VSSA, 9 VDDA, 10 PA0 // WKUP1 / USART2_CTS / ADC_IN0 / TIM2_CH1_ETR /  COMP1_INP // FT, 11 PA1 // USART2_RTS / ADC_IN1 / TIM2_CH2 / LCD_SEG0 / COMP1_INP // FT, 12 PA2 // USART2_TX / ADC_IN2 / TIM2_CH3 / TIM9_CH1 / LCD_SEG1 / COMP1_INP // FT, 13 PA3 // USART2_RX / ADC_IN3 / TIM2_CH4 / TIM9_CH2 / LCD_SEG2 / COMP1_INP, 14 PA4 // SPI1_NSS / USART2_CK /  ADC_IN4 / DAC_OUT1 / COMP1_INP, 15 PA5 // SPI1_SCK / ADC_IN5 / DAC_OUT2 / TIM2_CH1_ETR / COMP1_INP, 16 PA6 // SPI1_MISO / ADC_IN6 / TIM3_CH1/ LCD_SEG3 / TIM10_CH1 / COMP1_INP // FT, 17 PA7 // SPI1_MOSI / ADC_IN7 / TIM3_CH2 / LCD_SEG4 / TIM11_CH1 / COMP1_INP // FT, 18 PB0 // ADC_IN8 / TIM3_CH3 / LCD_SEG5 / COMP1_INP / VREF_OUT, 19 PB1 // ADC_IN9 / TIM3_CH4 / LCD_SEG6 / COMP1_INP / VREF_OUT // FT, 20 PB2 / BOOT1 // FT, 21 PB10 // I2C2_SCL / USART3_TX / TIM2_CH3 / LCD_SEG10 // FT, 22 PB11 // I2C2_SDA / USART3_RX / TIM2_CH4 / LCD_SEG11 // FT, 23 VSS, 24 VDD, 25 PB12 // SPI2_NSS / I2C2_SMBA / USART3_CK / LCD_SEG12 / ADC_IN18 / COMP1_INP / TIM10_CH1 // FT, 26 PB13 // SPI2_SCK / USART3_CTS / LCD_SEG13 / ADC_IN19 / COMP1_INP / TIM9_CH1 // FT, 27 PB14 // SPI2_MISO / USART3_RTS / LCD_SEG14 / ADC_IN20 / COMP1_INP / TIM9_CH2 // FT, 28 PB15 // SPI2_MOSI / LCD_SEG15 / ADC_IN21 /  COMP1_INP/TIM11_CH1 / RTC_REFIN // FT, 29 PA8 // USART1_CK / MCO/LCD_COM0 // FT, 30 PA9 // USART1_TX / LCD_COM1 // FT, 31 PA10 // USART1_RX / LCD_COM2 // FT, 32 PA11 // USART1_CTS / USB_DM / SPI1_MISO // FT, 33 PA12 // USART1_RTS/USB_DP / SPI1_MOSI // FT, 34 JTMS / SWDAT // FT, 35 VSS, 36 VDD, 37 JTCK / SWCLK // FT, 38 JTDI // TIM2_CH1_ETR / PA15 / SPI1_NSS / LCD_SEG17 // FT, 39 JTDO // TIM2_CH2 / PB3 / SPI1_SCK / COMP2_INM / LCD_SEG7 // FT, 40 NJTRST // TIM3_CH1 / PB4 / SPI1_MISO / COMP2_INP / LCD_SEG8 // FT, 41 PB5 // I2C1_SMBA / TIM3_CH2 / SPI1_MOSI / COMP2_INP / LCD_SEG9 // FT, 42 PB6 // I2C1_SCL / TIM4_CH1 / USART1_TX // FT, 43 PB7 // I2C1_SDA / TIM4_CH2 / USART1_RX / PVD_IN // FT, 44 BOOT0, 45 PB8 // TIM4_CH3 / I2C1_SCL/LCD_SEG16 / TIM10_CH1 // FT, 46 PB9 // TIM4_CH4 / I2C1_SDA / LCD_COM3/TIM11_CH1 // FT, 47 VSS, 48 VDD

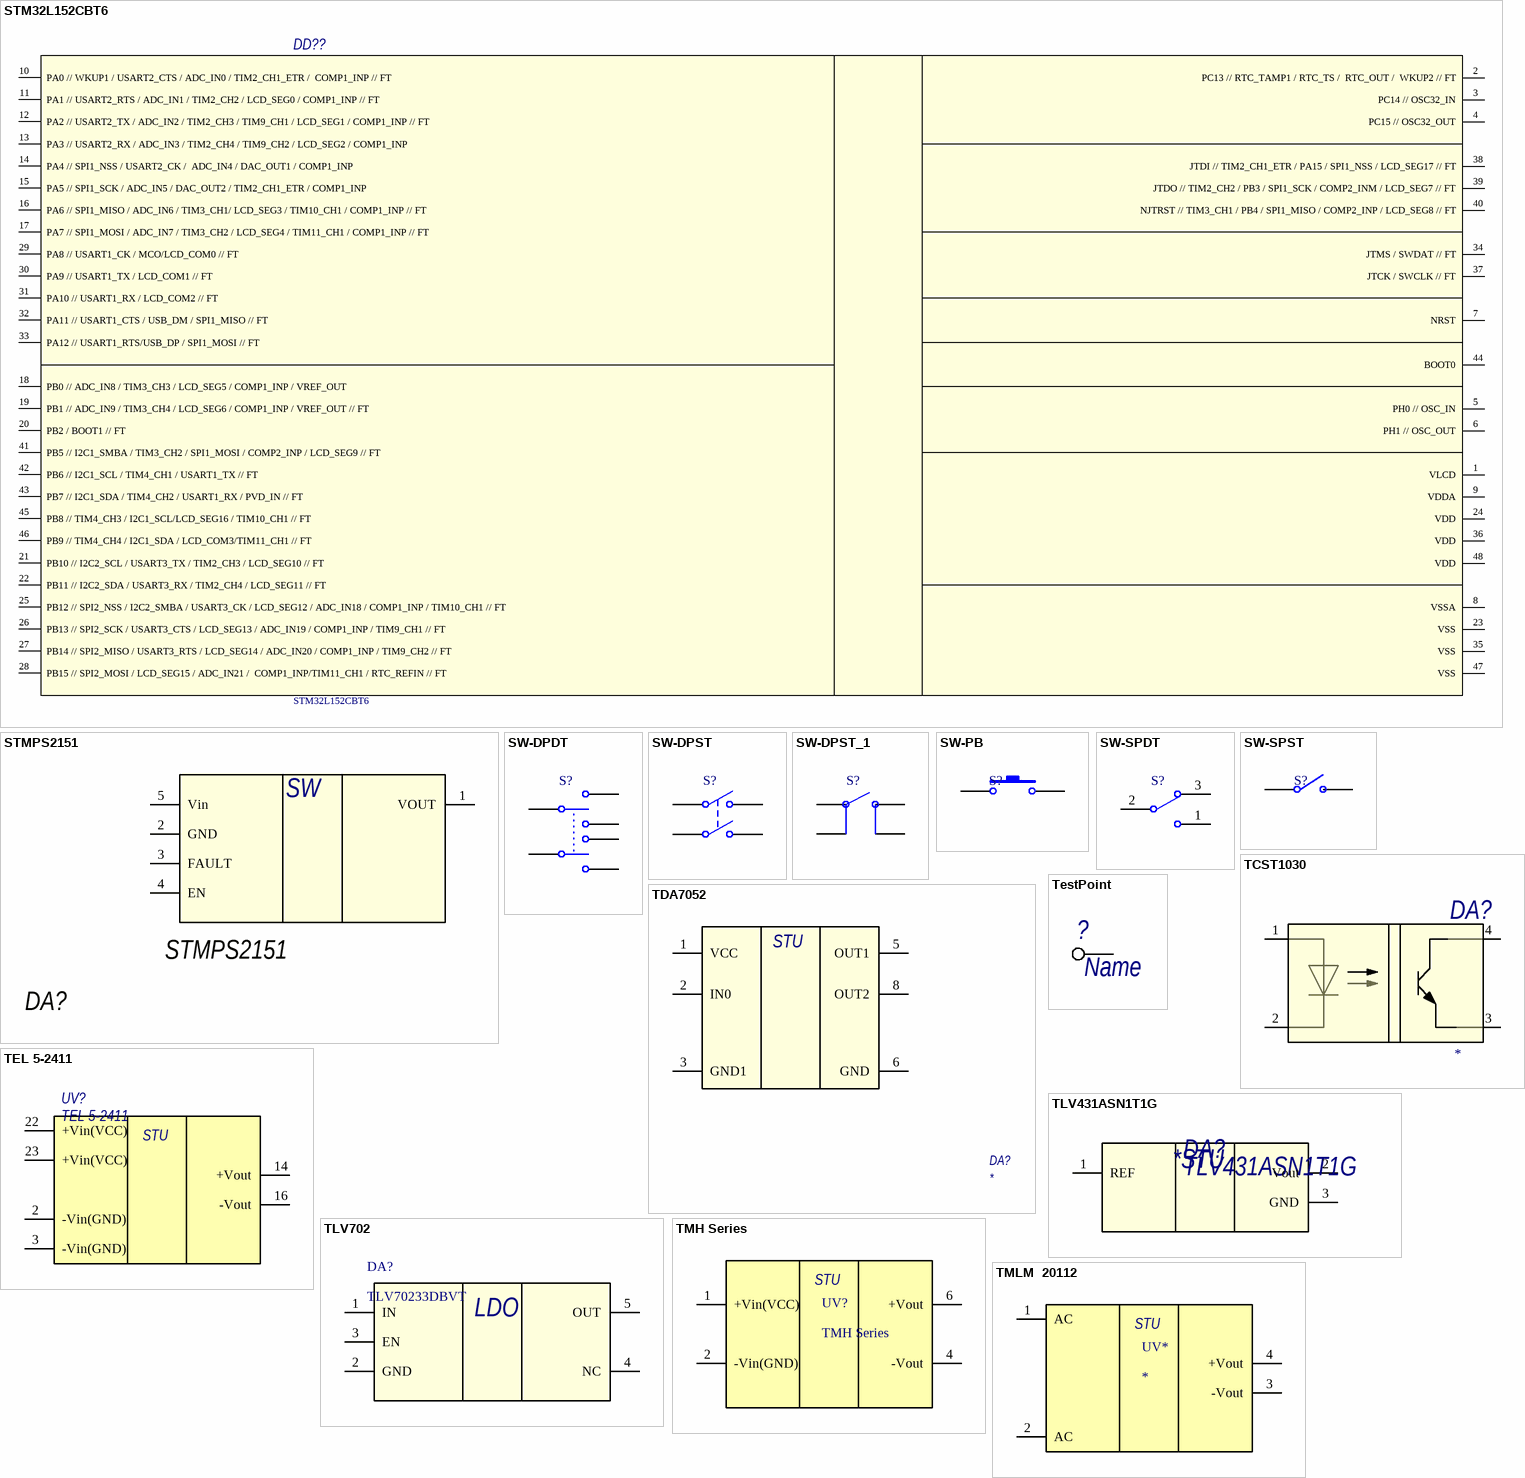
[diagram p36: symbols STM32L152CBT6 to TMLM  20112]

## STM32L152CBT6
designator DD??
Микроконтроллер; Name: STM32L152CBT6
footprint LQFP48_L (Thin QFP, 48-Leads, Body 7x7mm, Pitch 0.5mm, IPC High Density)
footprint LQFP48_H
pins: 1 VLCD, 2 PC13 // RTC_TAMP1 / RTC_TS /  RTC_OUT /  WKUP2 // FT, 3 PC14 // OSC32_IN, 4 PC15 // OSC32_OUT, 5 PH0 // OSC_IN, 6 PH1 // OSC_OUT, 7 NRST, 8 VSSA, 9 VDDA, 10 PA0 // WKUP1 / USART2_CTS / ADC_IN0 / TIM2_CH1_ETR /  COMP1_INP // FT, 11 PA1 // USART2_RTS / ADC_IN1 / TIM2_CH2 / LCD_SEG0 / COMP1_INP // FT, 12 PA2 // USART2_TX / ADC_IN2 / TIM2_CH3 / TIM9_CH1 / LCD_SEG1 / COMP1_INP // FT, 13 PA3 // USART2_RX / ADC_IN3 / TIM2_CH4 / TIM9_CH2 / LCD_SEG2 / COMP1_INP, 14 PA4 // SPI1_NSS / USART2_CK /  ADC_IN4 / DAC_OUT1 / COMP1_INP, 15 PA5 // SPI1_SCK / ADC_IN5 / DAC_OUT2 / TIM2_CH1_ETR / COMP1_INP, 16 PA6 // SPI1_MISO / ADC_IN6 / TIM3_CH1/ LCD_SEG3 / TIM10_CH1 / COMP1_INP // FT, 17 PA7 // SPI1_MOSI / ADC_IN7 / TIM3_CH2 / LCD_SEG4 / TIM11_CH1 / COMP1_INP // FT, 18 PB0 // ADC_IN8 / TIM3_CH3 / LCD_SEG5 / COMP1_INP / VREF_OUT, 19 PB1 // ADC_IN9 / TIM3_CH4 / LCD_SEG6 / COMP1_INP / VREF_OUT // FT, 20 PB2 / BOOT1 // FT, 21 PB10 // I2C2_SCL / USART3_TX / TIM2_CH3 / LCD_SEG10 // FT, 22 PB11 // I2C2_SDA / USART3_RX / TIM2_CH4 / LCD_SEG11 // FT, 23 VSS, 24 VDD, 25 PB12 // SPI2_NSS / I2C2_SMBA / USART3_CK / LCD_SEG12 / ADC_IN18 / COMP1_INP / TIM10_CH1 // FT, 26 PB13 // SPI2_SCK / USART3_CTS / LCD_SEG13 / ADC_IN19 / COMP1_INP / TIM9_CH1 // FT, 27 PB14 // SPI2_MISO / USART3_RTS / LCD_SEG14 / ADC_IN20 / COMP1_INP / TIM9_CH2 // FT, 28 PB15 // SPI2_MOSI / LCD_SEG15 / ADC_IN21 /  COMP1_INP/TIM11_CH1 / RTC_REFIN // FT, 29 PA8 // USART1_CK / MCO/LCD_COM0 // FT, 30 PA9 // USART1_TX / LCD_COM1 // FT, 31 PA10 // USART1_RX / LCD_COM2 // FT, 32 PA11 // USART1_CTS / USB_DM / SPI1_MISO // FT, 33 PA12 // USART1_RTS/USB_DP / SPI1_MOSI // FT, 34 JTMS / SWDAT // FT, 35 VSS, 36 VDD, 37 JTCK / SWCLK // FT, 38 JTDI // TIM2_CH1_ETR / PA15 / SPI1_NSS / LCD_SEG17 // FT, 39 JTDO // TIM2_CH2 / PB3 / SPI1_SCK / COMP2_INM / LCD_SEG7 // FT, 40 NJTRST // TIM3_CH1 / PB4 / SPI1_MISO / COMP2_INP / LCD_SEG8 // FT, 41 PB5 // I2C1_SMBA / TIM3_CH2 / SPI1_MOSI / COMP2_INP / LCD_SEG9 // FT, 42 PB6 // I2C1_SCL / TIM4_CH1 / USART1_TX // FT, 43 PB7 // I2C1_SDA / TIM4_CH2 / USART1_RX / PVD_IN // FT, 44 BOOT0, 45 PB8 // TIM4_CH3 / I2C1_SCL/LCD_SEG16 / TIM10_CH1 // FT, 46 PB9 // TIM4_CH4 / I2C1_SDA / LCD_COM3/TIM11_CH1 // FT, 47 VSS, 48 VDD

## STMPS2151
designator DA?  Name: STMPS2151  (hidden comment: *)
footprint SOT23-5_A
footprint SOT23-5_H
pins: 1 VOUT, 2 GND, 3 FAULT, 4 EN, 5 Vin
text: SW

## SW-DPDT
designator S?
Double-Pole, Double-Throw Switch; Published: 24-Mar-1999; LatestRevisionDate: 17-Jul-2002; LatestRevisionNote: Re-released for DXP Platform.; PackageReference: DPDT-6; Publisher: Altium Limited; PackageDescription: Switch; 6 Leads
footprint DPDT-6 (Switch; 6 Leads)
pins: 1, 2, 3, 4, 5, 6

## SW-DPST
designator S?
Double-Pole, Single-Throw Switch; Published: 24-Mar-1999; LatestRevisionDate: 17-Jul-2002; LatestRevisionNote: Re-released for DXP Platform.; PackageReference: DPST-4; Publisher: Altium Limited; PackageDescription: Switch; 4 Leads
footprint DPST-4 (Switch; 4 Leads)
pins: 1, 2, 3, 4

## SW-DPST_1
designator S?
Double-Pole, Single-Throw Switch; Published: 24-Mar-1999; LatestRevisionDate: 17-Jul-2002; LatestRevisionNote: Re-released for DXP Platform.; PackageReference: DPST-4; Publisher: Altium Limited; PackageDescription: Switch; 4 Leads
footprint DPST-4 (Switch; 4 Leads)
footprint Tact_Switch_TH
pins: 1, 2, 3, 4

## SW-PB
designator S?
Switch; Published: 24-Mar-1999; LatestRevisionDate: 17-Jul-2002; LatestRevisionNote: Re-released for DXP Platform.; PackageReference: SPST-2; Publisher: Altium Limited; PackageDescription: Switch; 2 Leads
footprint SPST-2 (Switch; 2 Leads)
pins: 1, 2

## SW-SPDT
designator S?
SPDT Subminiature Toggle Switch, Right Angle Mounting, Vertical Actuation; Published: 24-Mar-1999; LatestRevisionDate: 17-Dec-2003; LatestRevisionNote: Schematic revised, PCB Footprint replaced.; DatasheetVersion: 05-Dec-2000; PackageReference: TL36WW15050; Publisher: Altium Limited; PackageDescription: Switch; 4 Leads; ComponentLink1Description: Manufacturer Link; ComponentLink1URL: http://www.apem.com
footprint TL36WW15050 (Switch; 4 Leads)
pins: 1, 2, 3

## SW-SPST
designator S?
Single-Pole, Single-Throw Switch; Published: 24-Mar-1999; LatestRevisionDate: 17-Jul-2002; LatestRevisionNote: Re-released for DXP Platform.; PackageReference: SPST-2; Publisher: Altium Limited; PackageDescription: Switch; 2 Leads
footprint SPST-2 (Switch; 2 Leads)
pins: 1, 2

## TCST1030
designator DA?
footprint TCST2103
pins: 1, 2, 3, 4

## TDA7052
designator DA?
footprint SO8_H
pins: 1 VCC, 2 IN0, 3 GND1, 4 NC hidden, 5 OUT1, 6 GND, 7 NC hidden, 8 OUT2
text: STU

## TEL 5-2411
designator UV?
DC/DC конвертор
footprint TEL 5 (Traco Power DC/DC converter)
pins: 2 -Vin(GND), 3 -Vin(GND), 14 +Vout, 16 -Vout, 22 +Vin(VCC), 23 +Vin(VCC)
text: STU

## TestPoint
designator ?, comment Name
Test point; Name: Name
footprint PLS2-1
footprint 0.8_1.4x1.4_square
footprint Model Name (Footprint not found)
footprint Testpoint_KEY5000
pins: 1

## TLV431ASN1T1G
designator DA?
ИОН; name: TLV431ASN1T1G
pins: 1 REF, 2 Vout, 3 GND
text: *STU

## TLV702
designator DA?, comment TLV70233DBVT
LDO Regulator
pins: 1 IN, 2 GND, 3 EN, 4 NC, 5 OUT
text: LDO

## TMH Series
designator UV?
DC/DC конвертор; Name: *
pins: 1 +Vin(VCC), 2 -Vin(GND), 4 -Vout, 6 +Vout
text: STU

## TMLM  20112
designator UV*
TMLM 20112
pins: 1 AC, 2 AC, 3 -Vout, 4 +Vout
text: STU

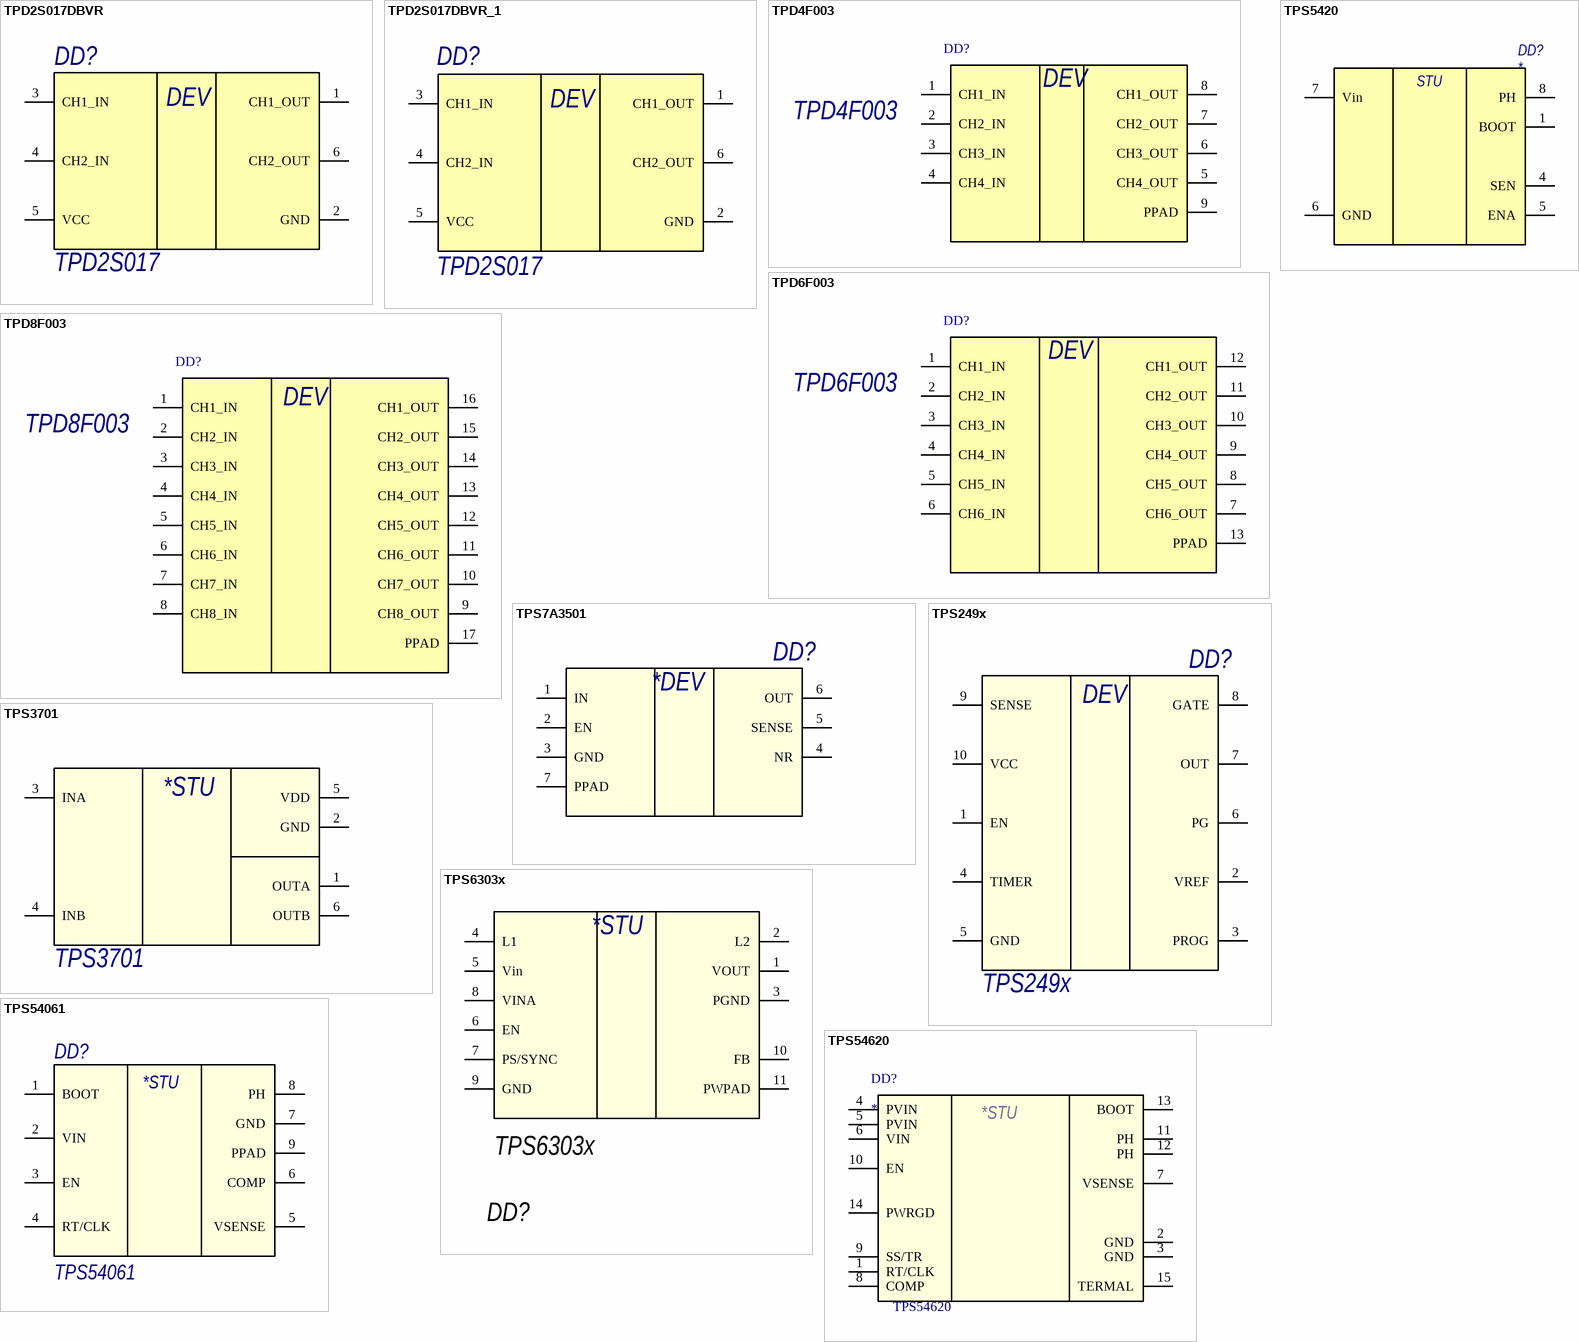
[diagram p37: symbols TPD2S017DBVR to TPS54620]

## TPD2S017DBVR
designator DD?, comment TPD2S017
EMI Filter; Manufacturer: Texas Instruments; Mounting Technology: Surface Mount; Name: TPD2S017
footprint SOT23-6_A
pins: 1 CH1_OUT, 2 GND (power), 3 CH1_IN, 4 CH2_IN, 5 VCC (power), 6 CH2_OUT
text: DEV

## TPD2S017DBVR_1
designator DD?, comment TPD2S017
EMI Filter; Manufacturer: Texas Instruments; Mounting Technology: Surface Mount; Name: TPD2S017
footprint SOT23-6_A
footprint SOT23-6_A
pins: 1 CH1_OUT, 2 GND (power), 3 CH1_IN, 4 CH2_IN, 5 VCC (power), 6 CH2_OUT
text: DEV

## TPD4F003
designator DD?
EMI Filter with Integrated ESD Protection, 4 Channels, -40 to +85 degC, 8-pin WSON (DQD), Green (RoHS & no Sb/Br); Manufacturer: Texas Instruments; PartNumber: TPD4F003DQDR; Breakdown Voltage(Min)(V): 6; Ctotal(Typ)(pF): 17; IEC 61000-4-2 Air-Gap(Typ)(+/- kV): 20; IEC 61000-4-2 Contact(Typ)(+/- kV): 12; SubFamily: EMI Solution; DatasheetVersion: SLLS907D; PackageVersion: revC, Dec-2011; PackageReference: DQD8-1200X400TP; PackageDescription: 8-Pin Plastic Small Outline No-Lead, 1.35 x 1.7 x 0.8 mm Body, 0.4 mm Pitch, Exposed Pad; Supplier 1: Digi-Key; Supplier Part Number 1: 296-25817-2-ND; Supplier 2: Digi-Key; Supplier Part Number 2: 296-25817-1-ND; Supplier 3: Digi-Key; Supplier Part Number 3: 296-25817-6-ND; Supplier 4: Farnell; Supplier Part Number 4: 1815758RL; Supplier 5: Farnell; Supplier Part Number 5: 1815758; Supplier 6: Newark; Supplier Part Number 6: 65R4599; Supplier 7: Mouser; Supplier Part Number 7: 595-TPD4F003DQDR; Eco-Plan: Green (RoHS & no Sb/Br); Mounting Technology: Surface Mount; ComponentLink1Description: Datasheet; ComponentLink1URL: http://www.ti.com/general/docs/lit/getliterature.tsp?genericPartNumber=TPD4F003&fileType=pdf; ComponentLink2Description: URL Link1; ComponentLink2URL: SamplesURL:http://www.ti.com/product/tpd4f003#samples; Name: TPD4F003
footprint DQD8-1200X400TP (SON, 8-Leads, Body 1.35x1.7mm, Pitch 0.4mm, Thermal Pad 1.2x0.4mm, TI Recommended)
pins: 1 CH1_IN, 2 CH2_IN, 3 CH3_IN, 4 CH4_IN, 5 CH4_OUT, 6 CH3_OUT, 7 CH2_OUT, 8 CH1_OUT, 9 PPAD (power)
text: DEV

## TPD6F003
designator DD?
EMI Filter for Display Interface, 6 Channels, -40 to +85 degC, 12-pin WSON (DQD), Green (RoHS & no Sb/Br); Manufacturer: Texas Instruments; PartNumber: TPD6F003DQDR; Breakdown Voltage(Min)(V): 6; Ctotal(Typ)(pF): 19; IEC 61000-4-2 Air-Gap(Typ)(+/- kV): 20; IEC 61000-4-2 Contact(Typ)(+/- kV): 12; SubFamily: EMI Solution; DatasheetVersion: SLLS907D; PackageVersion: revC, Dec-2011; PackageReference: DQD12-2000X400TP; PackageDescription: 12-Pin Plastic Small Outline No-Lead, 1.35 x 2.5 x 0.8 mm Body, 0.4 mm Pitch, Exposed Pad; Supplier 1: Digi-Key; Supplier Part Number 1: 296-25802-2-ND; Supplier 2: Digi-Key; Supplier Part Number 2: 296-25802-1-ND; Supplier 3: Digi-Key; Supplier Part Number 3: 296-25802-6-ND; Supplier 4: Farnell; Supplier Part Number 4: 1863883; Supplier 5: Newark; Supplier Part Number 5: 69R4547; Supplier 6: Mouser; Supplier Part Number 6: 595-TPD6F003DQDR; Eco-Plan: Green (RoHS & no Sb/Br); Mounting Technology: Surface Mount; ComponentLink1Description: Datasheet; ComponentLink1URL: http://www.ti.com/general/docs/lit/getliterature.tsp?genericPartNumber=TPD6F003&fileType=pdf; ComponentLink2Description: URL Link1; ComponentLink2URL: SamplesURL:http://www.ti.com/product/tpd6f003#samples; Name: TPD6F003
footprint DQD12-2000X400TP (SON, 12-Leads, Body 1.35x2.5mm, Pitch 0.4mm, Thermal Pad 2x0.4mm, TI Recommended)
pins: 1 CH1_IN, 2 CH2_IN, 3 CH3_IN, 4 CH4_IN, 5 CH5_IN, 6 CH6_IN, 7 CH6_OUT, 8 CH5_OUT, 9 CH4_OUT, 10 CH3_OUT, 11 CH2_OUT, 12 CH1_OUT, 13 PPAD (power)
text: DEV

## TPD8F003
designator DD?
EMI Filter for Display Interface, 8 Channels, -40 to +85 degC, 16-pin WSON (DQD), Green (RoHS & no Sb/Br); Manufacturer: Texas Instruments; PartNumber: TPD8F003DQDR; Breakdown Voltage(Min)(V): 6; Ctotal(Typ)(pF): 17; IEC 61000-4-2 Air-Gap(Typ)(+/- kV): 20; IEC 61000-4-2 Contact(Typ)(+/- kV): 12; SubFamily: EMI Solution; DatasheetVersion: SLLS907D; PackageVersion: revC, Dec-2011; PackageReference: DQD16-2800X400TP; PackageDescription: 16-Pin Plastic Small Outline No-Lead, 1.35 x 3.3 x 0.8 mm Body, 0.4 mm Pitch, Exposed Pad; Supplier 1: Digi-Key; Supplier Part Number 1: 296-25803-2-ND; Supplier 2: Digi-Key; Supplier Part Number 2: 296-25803-1-ND; Supplier 3: Digi-Key; Supplier Part Number 3: 296-25803-6-ND; Supplier 4: Farnell; Supplier Part Number 4: 1863884; Supplier 5: Newark; Supplier Part Number 5: 69R4548; Supplier 6: Mouser; Supplier Part Number 6: 595-TPD8F003DQDR; Eco-Plan: Green (RoHS & no Sb/Br); Mounting Technology: Surface Mount; ComponentLink1Description: Datasheet; ComponentLink1URL: http://www.ti.com/general/docs/lit/getliterature.tsp?genericPartNumber=TPD8F003&fileType=pdf; ComponentLink2Description: URL Link1; ComponentLink2URL: SamplesURL:http://www.ti.com/product/tpd8f003#samples; Name: TPD8F003
footprint DQD16-2800X400TP (SON, 16-Leads, Body 1.35x3.3mm, Pitch 0.4mm, Thermal Pad 2.8x0.4mm, TI Recommended)
pins: 1 CH1_IN, 2 CH2_IN, 3 CH3_IN, 4 CH4_IN, 5 CH5_IN, 6 CH6_IN, 7 CH7_IN, 8 CH8_IN, 9 CH8_OUT, 10 CH7_OUT, 11 CH6_OUT, 12 CH5_OUT, 13 CH4_OUT, 14 CH3_OUT, 15 CH2_OUT, 16 CH1_OUT, 17 PPAD (power)
text: DEV

## TPS7A3501
designator DD?
High PSRR, Low-Noise, 1-A Power Filter; PSRR: 42дБ @ 1МГц; T (°C) Ambient: -40...+125; Output Current: 1A; Name: TPS7A3501
pins: 1 IN, 2 EN, 3 GND, 4 NR, 5 SENSE, 6 OUT, 7 PPAD
text: *DEV

## TPS249x
designator DD?
Positive high-voltege power-limiting Hot swap controller; Vvcc: 9...80V; Vprog: 0.4...4 V; Vout: 0...80V; Ivref: 0...1 A; Package: VSSOP
footprint uSOP-10_H
pins: 1 EN, 2 VREF, 3 PROG, 4 TIMER, 5 GND, 6 PG, 7 OUT, 8 GATE, 9 SENSE, 10 VCC
text: DEV

## TPS3701
designator DD?
36-V Window Comparator with Internal Reference  for Over- and Undervoltage Detection; T (°C) Ambient: -40...+125; Name: TPS3701
footprint WSON-8 (PSON, 8-Leads, Body 4x4mm, Pitch 0.8mm, NSC Recommended)
pins: 1 OUTA, 2 GND, 3 INA, 4 INB, 5 VDD, 6 OUTB
text: *STU

## TPS5420
designator DD?
footprint SO8_A
pins: 1 BOOT, 4 SEN, 5 ENA, 6 GND, 7 Vin, 8 PH
text: STU

## TPS6303x
designator DD?  Name: TPS6303x  (hidden comment: *)
DC/DC Buck-Boost
footprint QFN10
pins: 1 VOUT, 2 L2, 3 PGND, 4 L1, 5 Vin, 6 EN, 7 PS/SYNC, 8 VINA, 9 GND, 10 FB, 11 PWPAD
text: *STU

## TPS54061
designator DD?
200mA Synchronous Step-Down DC-DC Converter with Low IQ; Value: Value; Name: TPS54061
footprint WSON-8 (PSON, 8-Leads, Body 4x4mm, Pitch 0.8mm, NSC Recommended)
pins: 1 BOOT, 2 VIN, 3 EN, 4 RT/CLK, 5 VSENSE, 6 COMP, 7 GND, 8 PH, 9 PPAD
text: *STU

## TPS54620
designator DD?  Name: TPS54620
DC/DC
footprint S-PVQFN-N14_A
footprint S-PVQFN-N14_H
pins: 1 RT/CLK, 2 GND, 3 GND, 4 PVIN, 5 PVIN, 6 VIN, 7 VSENSE, 8 COMP, 9 SS/TR, 10 EN, 11 PH, 12 PH, 13 BOOT, 14 PWRGD, 15 TERMAL
text: *STU

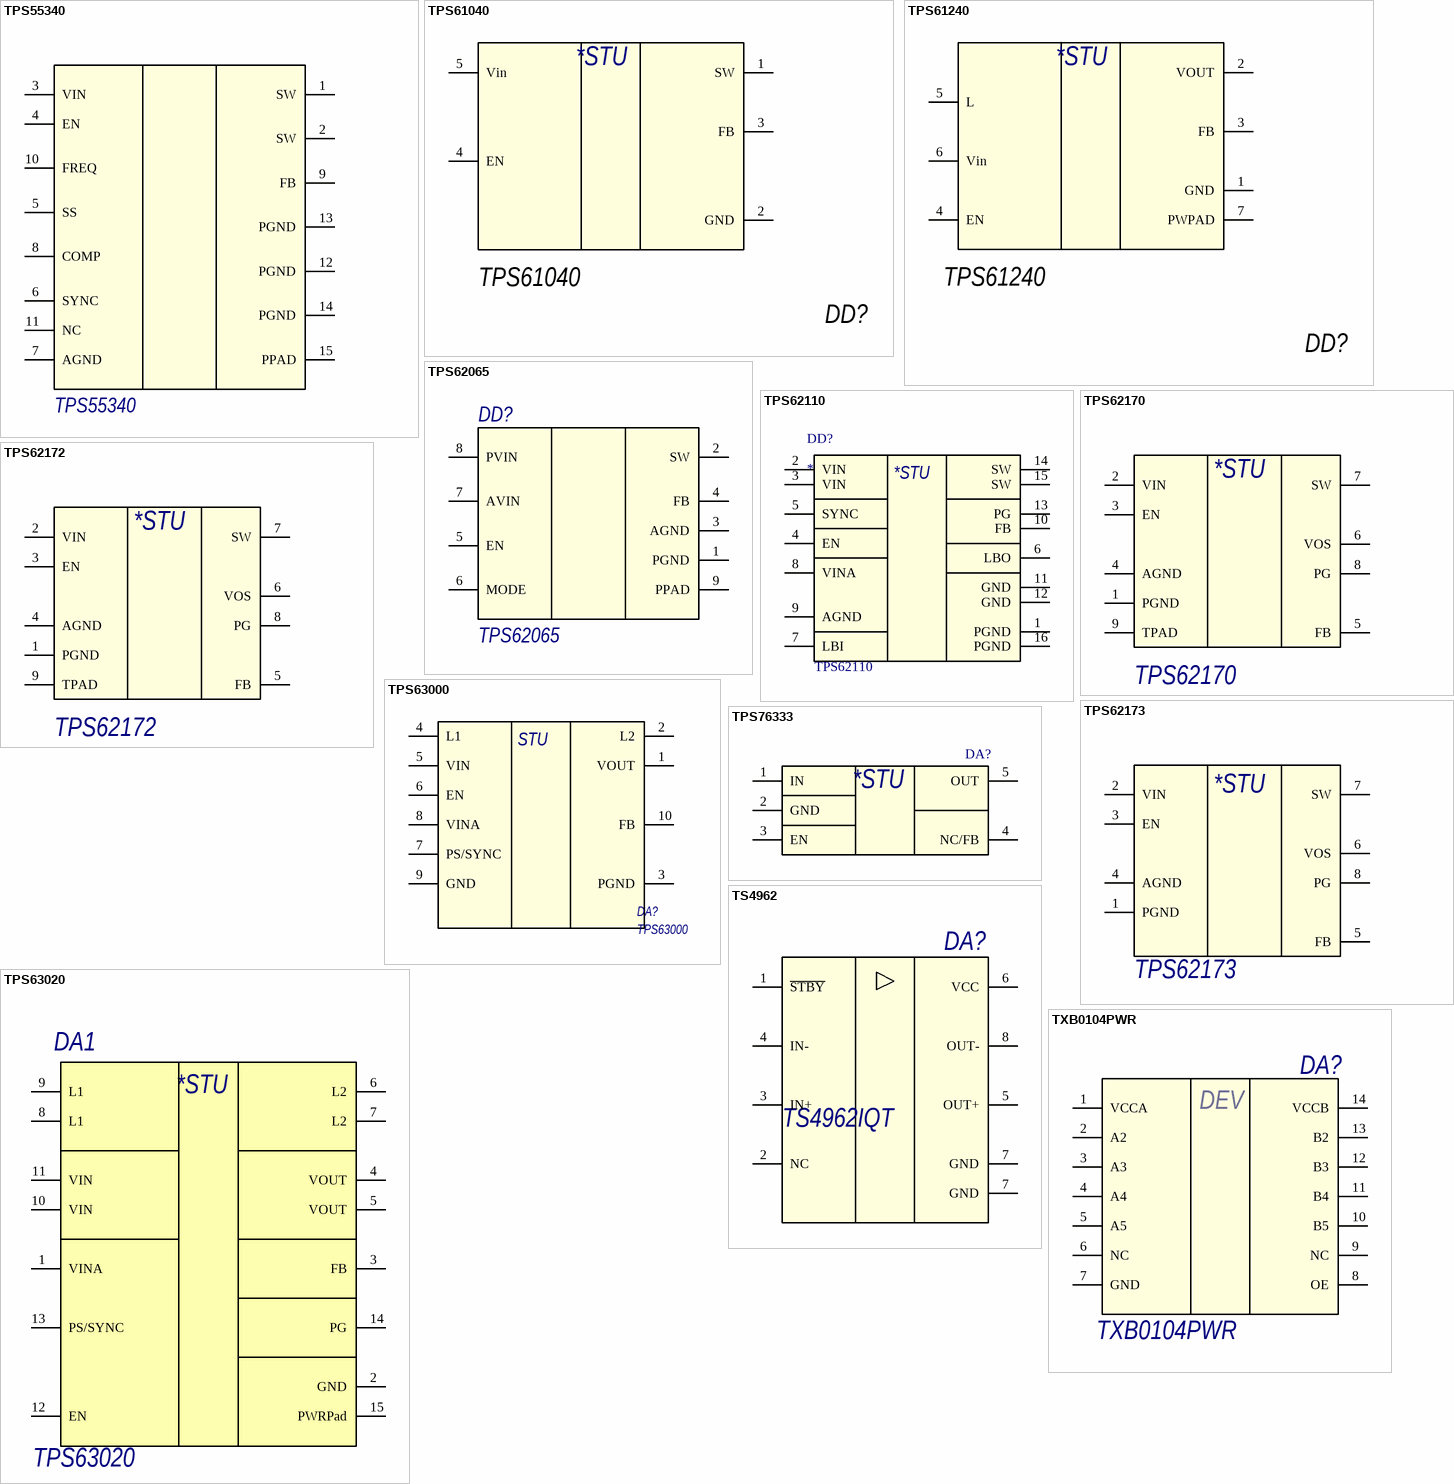
[diagram p38: symbols TPS55340 to TXB0104PWR]

## TPS55340
designator DD?
Integrated 5-A 40-V Wide Input Range Boost/SEPIC/Flyback DC-DC Regulator; Value: Value; Name: TPS55340
footprint HTSSOP14
pins: 1 SW (power), 2 SW (power), 3 VIN (power), 4 EN (power), 5 SS (power), 6 SYNC (power), 7 AGND (power), 8 COMP (power), 9 FB (power), 10 FREQ (power), 11 NC (power), 12 PGND (power), 13 PGND (power), 14 PGND (power), 15 PPAD (power)

## TPS61040
designator DD?  Name: TPS61040  (hidden comment: *)
Low-Power DC-DC Boost Converter
footprint SOT23-5_A
footprint SOT23-5_H
pins: 1 SW, 2 GND, 3 FB, 4 EN, 5 Vin
text: *STU

## TPS61240
designator DD?
Name: TPS61240
footprint QFN6_A
pins: 1 GND, 2 VOUT, 3 FB, 4 EN, 5 L, 6 Vin, 7 PWPAD
text: *STU

## TPS62065
designator DD?
3-MHz 2A Step Down Converter in 2x2 SON Package; Value: Value; Name: TPS62065
footprint WSON-8 (PSON, 8-Leads, Body 4x4mm, Pitch 0.8mm, NSC Recommended)
pins: 1 PGND, 2 SW, 3 AGND, 4 FB, 5 EN, 6 MODE, 7 AVIN, 8 PVIN, 9 PPAD

## TPS62110
designator DD?  Name: TPS62110
DC/DC
footprint S-PVQFN-N15
pins: 1 PGND, 2 VIN, 3 VIN, 4 EN, 5 SYNC, 6 LBO, 7 LBI, 8 VINA, 9 AGND, 10 FB, 11 GND, 12 GND, 13 PG, 14 SW, 15 SW, 16 PGND
text: *STU

## TPS62170
designator DD?
3-17V 0.5A Step-Down Converter with DCS-Control; Value: Ajust; Name: TPS62170
footprint WSON-8 (PSON, 8-Leads, Body 4x4mm, Pitch 0.8mm, NSC Recommended)
pins: 1 PGND, 2 VIN, 3 EN, 4 AGND, 5 FB, 6 VOS, 7 SW, 8 PG, 9 TPAD
text: *STU

## TPS62172
designator DD?
3-17V 0.5A Step-Down Converter with DCS-Control; Value: Fixed 3.3; Name: TPS62172
footprint WSON-8 (PSON, 8-Leads, Body 4x4mm, Pitch 0.8mm, NSC Recommended)
pins: 1 PGND, 2 VIN, 3 EN, 4 AGND, 5 FB, 6 VOS, 7 SW, 8 PG, 9 TPAD
text: *STU

## TPS62173
designator DD?
36-V Window Comparator with Internal Reference  for Over- and Undervoltage Detection; Value: Fixed +5.0; Name: TPS62173
footprint WSON-8 (PSON, 8-Leads, Body 4x4mm, Pitch 0.8mm, NSC Recommended)
pins: 1 PGND, 2 VIN, 3 EN, 4 AGND, 5 FB, 6 VOS, 7 SW, 8 PG
text: *STU

## TPS63000
designator DA?
DC/DC
footprint QFN-10
pins: 1 VOUT, 2 L2, 3 PGND, 4 L1, 5 VIN, 6 EN, 7 PS/SYNC, 8 VINA, 9 GND, 10 FB
text: STU

## TPS63020
designator DA1
DC-DC; Name: TPS63020
footprint PVSON14_A
footprint PVSON14_H
pins: 1 VINA, 2 GND, 3 FB, 4 VOUT, 5 VOUT, 6 L2, 7 L2, 8 L1, 9 L1, 10 VIN, 11 VIN, 12 EN, 13 PS/SYNC, 14 PG, 15 PWRPad
text: *STU

## TPS76333
designator DA?
Линейный стабилизатор напряжения
footprint SOT23-5_A
footprint SOT23-5_H
pins: 1 IN, 2 GND, 3 EN, 4 NC/FB, 5 OUT
text: *STU

## TS4962
designator DA?, comment TS4962IQT
Audio Power Amplifier
pins: 1 ~{STBY}, 2 NC, 3 IN+, 4 IN-, 5 OUT+, 6 VCC, 7 GND, 7 GND, 8 OUT-

## TXB0104PWR
designator DA?  Name: TXB0104PWR  (hidden comment: *)
4-BIT BIDIRECTIONAL VOLTAGE-LEVEL TRANSLATOR  WITH AUTO-DIRECTION SENSING AND ±15-kV ESD PROTECTION
footprint TSSOP20
footprint TSSOP14_A
pins: 1 VCCA, 2 A2, 3 A3, 4 A4, 5 A5, 6 NC, 7 GND, 8 OE, 9 NC, 10 B5, 11 B4, 12 B3, 13 B2, 14 VCCB
text: DEV

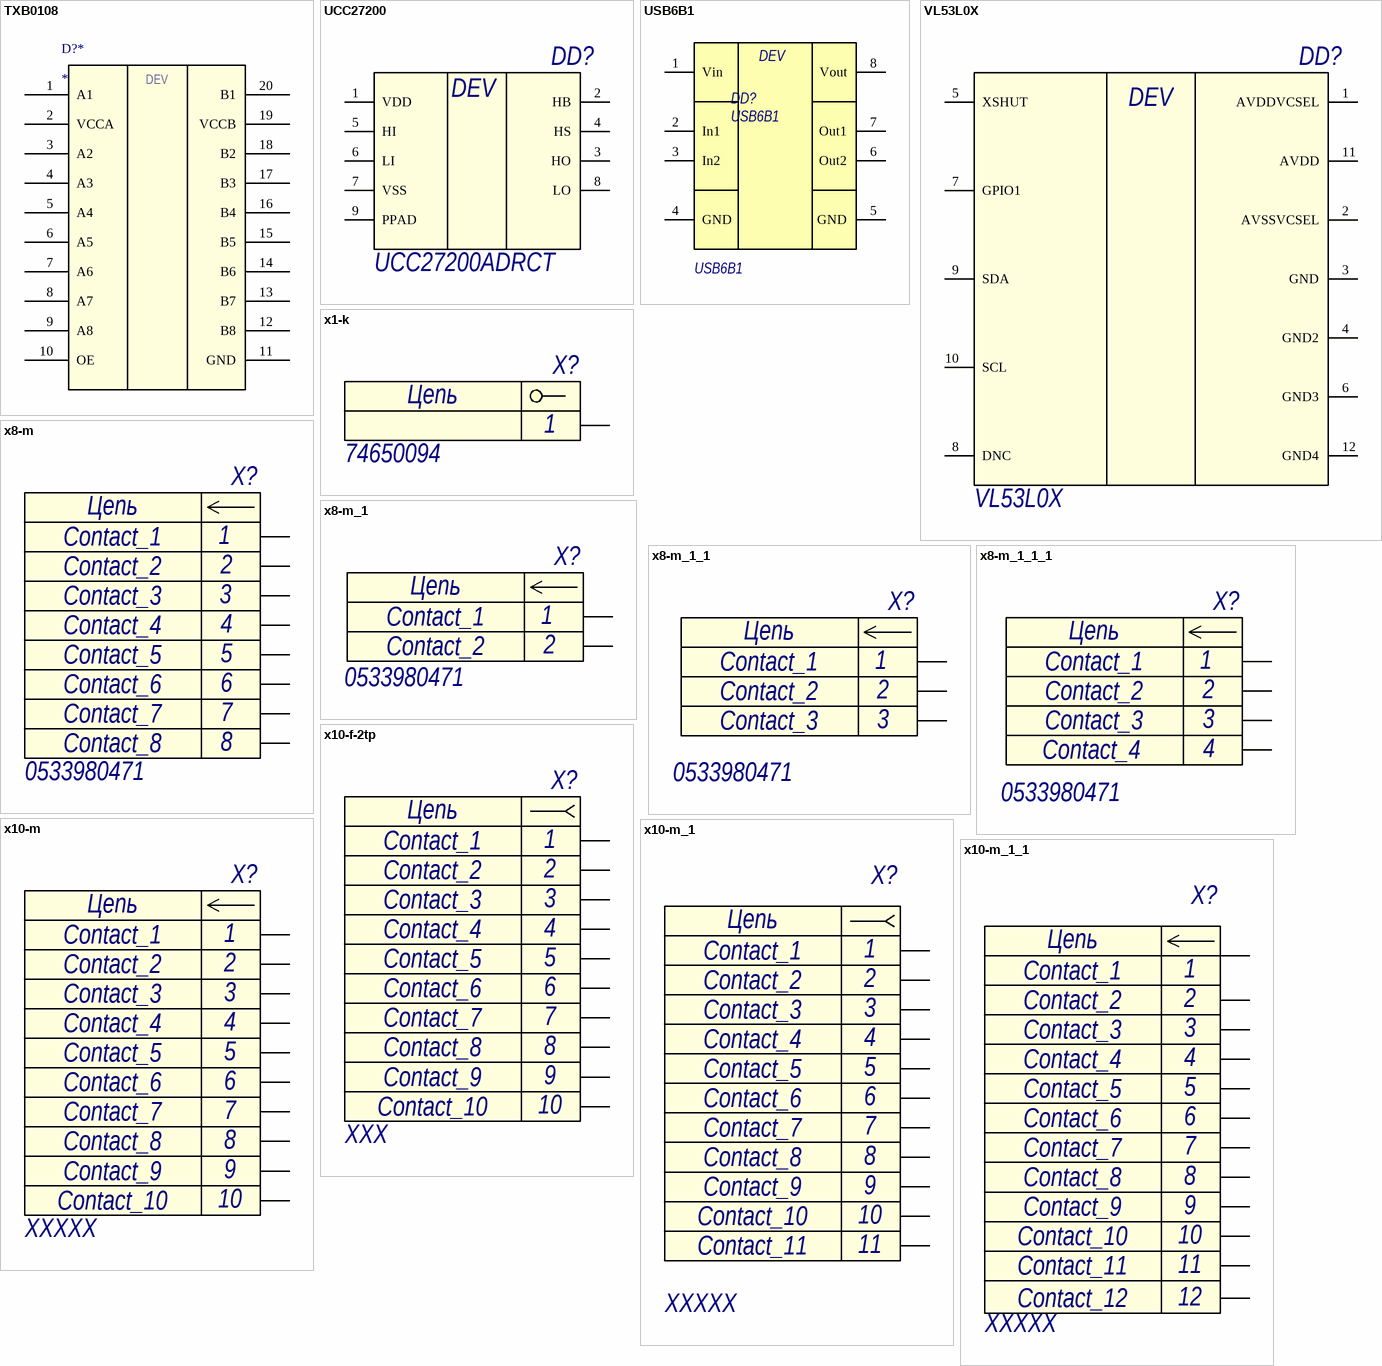
[diagram p39: symbols TXB0108 to x10-m_1_1]

## TXB0108
designator D?*
8-BIT BIDIRECTIONAL VOLTAGE-LEVEL TRANSLATOR  WITH AUTO-DIRECTION SENSING AND ±15-kV ESD PROTECTION
footprint TSSOP20
pins: 1 A1, 2 VCCA, 3 A2, 4 A3, 5 A4, 6 A5, 7 A6, 8 A7, 9 A8, 10 OE, 11 GND, 12 B8, 13 B7, 14 B6, 15 B5, 16 B4, 17 B3, 18 B2, 19 VCCB, 20 B1
text: DEV

## UCC27200
designator DD?, comment UCC27200ADRCT
HI-LO side driver; Vdd: 17В; T (°C) Ambient: -40...+140; Vhs,Vhb: 110В; Slew rate on HS: 50 V/ns; Tr,Tf: 8 ns; Name: UCC27200ADRCT
pins: 1 VDD, 2 HB, 3 HO, 4 HS, 5 HI, 6 LI, 7 VSS, 8 LO, 9 PPAD
text: DEV

## USB6B1
designator DD?
Защита USB; Name: USB6B1
pins: 1 Vin, 2 In1, 3 In2, 4 GND, 5 GND, 6 Out2, 7 Out1, 8 Vout
text: DEV

## VL53L0X
designator DD?  Name: VL53L0X
Оптический дальномер; Manufacturer: STMicroelectronics; Package: 8QFN
footprint PWSON8_A
footprint PWSON8_H
pins: 1 AVDDVCSEL, 2 AVSSVCSEL, 3 GND, 4 GND2, 5 XSHUT, 6 GND3, 7 GPIO1, 8 DNC, 9 SDA, 10 SCL, 11 AVDD, 12 GND4
text: DEV

## x1-k
designator X?, comment 74650094
Разъем - 1 конт. клемма; Name: 74650094
pins: 1
1 alternate drawing of the same symbol
text: Цепь

## x8-m
designator X?, comment 0533980471
Разъем - 8 конт. вилка; Contact_1: Contact_1; Contact_2: Contact_2; Contact_3: Contact_3; Contact_4: Contact_4; Contact_5: Contact_5; Contact_6: Contact_6; Contact_7: Contact_7; Contact_8: Contact_8; Name: 0533980471
pins: 1, 2, 3, 4, 5, 6, 7, 8
1 alternate drawing of the same symbol
text: Цепь

## x8-m_1
designator X?, comment 0533980471
Разъем - 8 конт. вилка; Contact_1: Contact_1; Contact_2: Contact_2; Contact_3: Contact_3; Contact_4: Contact_4; Contact_5: Contact_5; Contact_6: Contact_6; Contact_7: Contact_7; Contact_8: Contact_8; Name: 0533980471
pins: 1, 2
1 alternate drawing of the same symbol
text: Цепь

## x8-m_1_1
designator X?, comment 0533980471
Разъем - 8 конт. вилка; Contact_1: Contact_1; Contact_2: Contact_2; Contact_3: Contact_3; Contact_4: Contact_4; Contact_5: Contact_5; Contact_6: Contact_6; Contact_7: Contact_7; Contact_8: Contact_8; Name: 0533980471
pins: 1, 2, 2
1 alternate drawing of the same symbol
text: Цепь

## x8-m_1_1_1
designator X?, comment 0533980471
Разъем - 8 конт. вилка; Contact_1: Contact_1; Contact_2: Contact_2; Contact_3: Contact_3; Contact_4: Contact_4; Contact_5: Contact_5; Contact_6: Contact_6; Contact_7: Contact_7; Contact_8: Contact_8; Name: 0533980471
pins: 1, 2, 2, 2
1 alternate drawing of the same symbol
text: Цепь

## x10-f-2tp
designator X?, comment XXX
Разъем - 10 конт. розетка; Contact_1: Contact_1; Contact_2: Contact_2; Contact_3: Contact_3; Contact_4: Contact_4; Contact_5: Contact_5; Contact_6: Contact_6; Contact_7: Contact_7; Contact_8: Contact_8; Contact_9: Contact_9; Contact_10: Contact_10; Name: XXX
pins: 1, 2, 3, 4, 5, 6, 7, 8, 9, 10
1 alternate drawing of the same symbol
text: Цепь

## x10-m
designator X?, comment XXXXX
Разъем - 10 конт. вилка; Contact_1: Contact_1; Contact_2: Contact_2; Contact_3: Contact_3; Contact_4: Contact_4; Contact_5: Contact_5; Contact_6: Contact_6; Contact_7: Contact_7; Contact_8: Contact_8; Contact_9: Contact_9; Contact_10: Contact_10; Name: XXXXX
pins: 1, 2, 3, 4, 5, 6, 7, 8, 9, 10
1 alternate drawing of the same symbol
text: Цепь

## x10-m_1
designator X?, comment XXXXX
Разъем - 10 конт. вилка; Contact_1: Contact_1; Contact_2: Contact_2; Contact_3: Contact_3; Contact_4: Contact_4; Contact_5: Contact_5; Contact_6: Contact_6; Contact_7: Contact_7; Contact_8: Contact_8; Contact_9: Contact_9; Contact_10: Contact_10; Contact_11: Contact_11; Name: XXXXX
pins: 1, 2, 3, 4, 5, 6, 7, 8, 9, 10, 10
1 alternate drawing of the same symbol
text: Цепь; 11

## x10-m_1_1
designator X?, comment XXXXX
Разъем - 10 конт. вилка; Contact_1: Contact_1; Contact_2: Contact_2; Contact_3: Contact_3; Contact_4: Contact_4; Contact_5: Contact_5; Contact_6: Contact_6; Contact_7: Contact_7; Contact_8: Contact_8; Contact_9: Contact_9; Contact_10: Contact_10; Contact_11: Contact_11; Contact_12: Contact_12; Name: XXXXX
pins: 1, 2, 3, 4, 5, 6, 7, 8, 9, 10, 10, 10
1 alternate drawing of the same symbol
text: Цепь; 11; 12

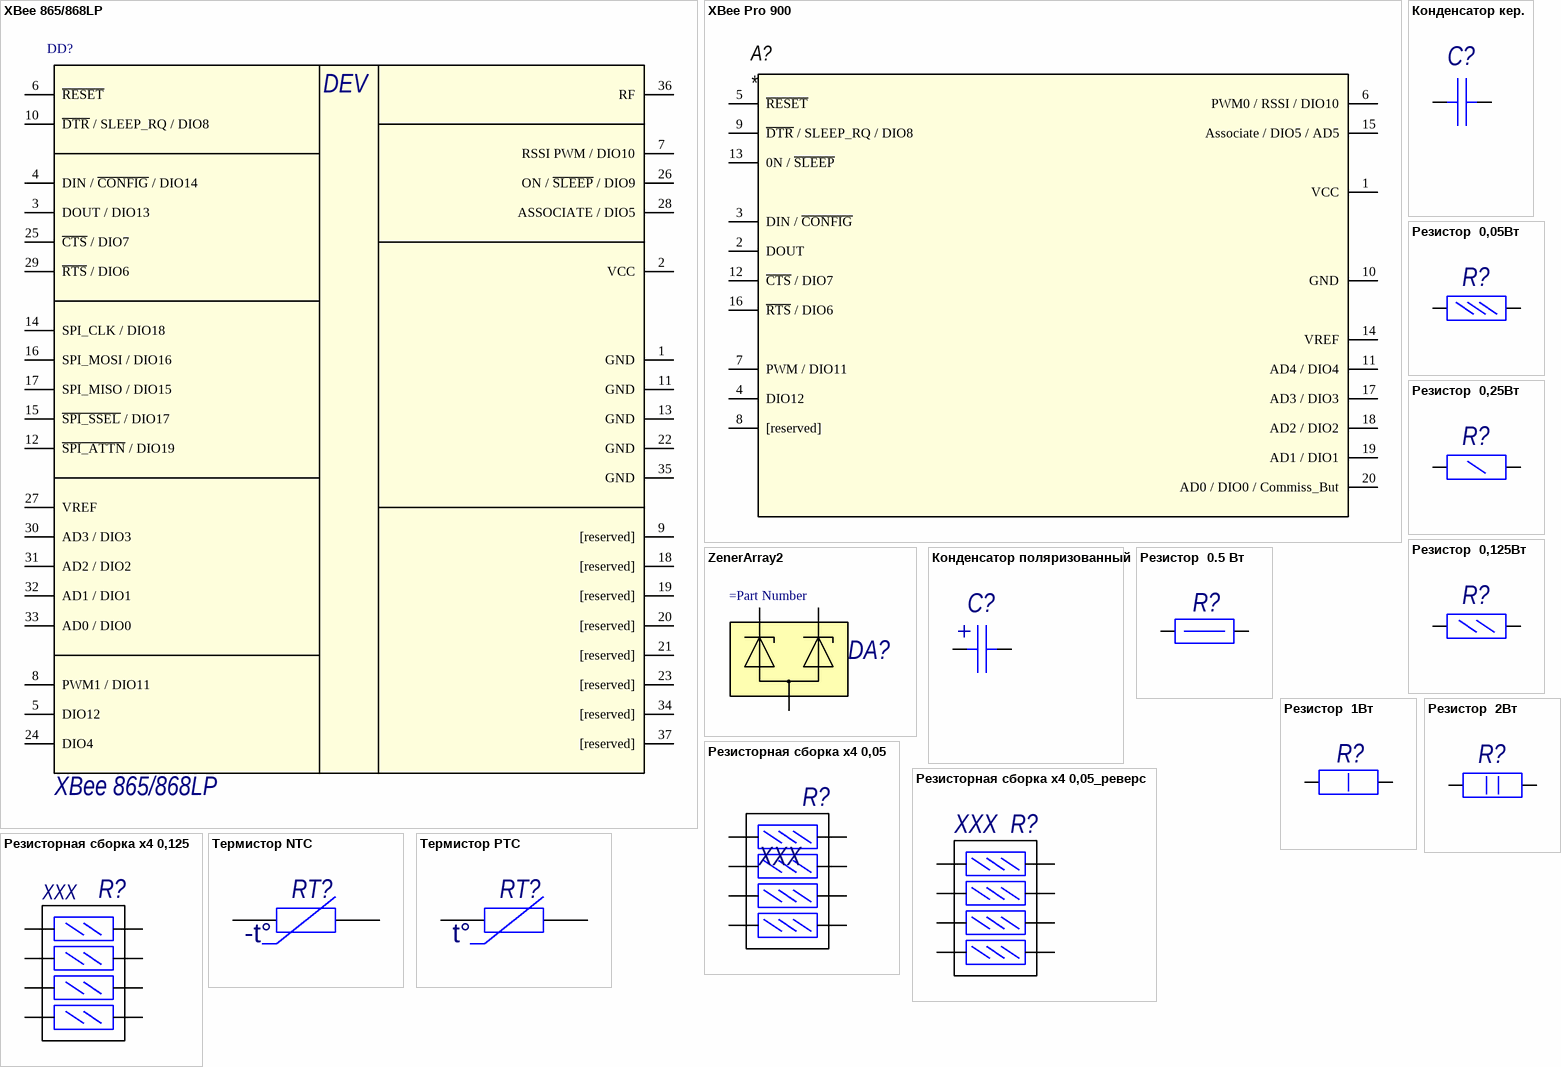
[diagram p40: symbols XBee 865/868LP to Термистор PTC]

## XBee 865/868LP
designator DD?
Радиомодуль; Name: XBee 865/868LP
footprint XB868LP
pins: 1 GND, 2 VCC, 3 DOUT / DIO13, 4 DIN / ~{CONFIG} / DIO14, 5 DIO12, 6 ~{RESET}, 7 RSSI PWM / DIO10, 8 PWM1 / DIO11, 9 [reserved], 10 ~{DTR} / SLEEP_RQ / DIO8, 11 GND, 12 ~{SPI_ATTN} / DIO19, 13 GND, 14 SPI_CLK / DIO18, 15 ~{SPI_SSEL} / DIO17, 16 SPI_MOSI / DIO16, 17 SPI_MISO / DIO15, 18 [reserved], 19 [reserved], 20 [reserved], 21 [reserved], 22 GND, 23 [reserved], 24 DIO4, 25 ~{CTS} / DIO7, 26 ON / ~{SLEEP} / DIO9, 27 VREF, 28 ASSOCIATE / DIO5, 29 ~{RTS} / DIO6, 30 AD3 / DIO3, 31 AD2 / DIO2, 32 AD1 / DIO1, 33 AD0 / DIO0, 34 [reserved], 35 GND, 36 RF, 37 [reserved]
text: DEV

## XBee Pro 900
designator A?
Радиомодуль; Manufacturer: Digi International; Manufacturer Part Number: XBP09-DMUIT-156; Voltage - Supply: 3 V ~ 3.6 V; Frequency: 900MHz; Modulation or Protocol: FHSS; Sensitivity: -100dBm; Data Rate (Max): 156kbps; Current - Receiving: 80mA; Current - Transmitting: 210mA; Data Interface: PCB, Through Hole; Antenna Connector: U.FL; Power - Output: 17dBm (50mW); Supplier 1: Digi-Key; Supplier: Digi-Key; RoHS: RoHS Compliant; Applications: Wireless Mesh Networks; Memory Size: -; Operating Temperature: -40°C ~ 85°C; Package / Case: Module; Category: RF/IF and RFID; Packaging: Bulk; Supplier Part Number 1: 602-1131-ND; Supplier Part Number: 602-1131-ND
footprint XB900PRO
pins: 1 VCC, 2 DOUT, 3 DIN / ~{CONFIG}, 4 DIO12, 5 ~{RESET}, 6 PWM0 / RSSI / DIO10, 7 PWM / DIO11, 8 [reserved], 9 ~{DTR} / SLEEP_RQ / DIO8, 10 GND, 11 AD4 / DIO4, 12 ~{CTS} / DIO7, 13 0N / ~{SLEEP}, 14 VREF, 15 Associate / DIO5 / AD5, 16 ~{RTS} / DIO6, 17 AD3 / DIO3, 18 AD2 / DIO2, 19 AD1 / DIO1, 20 AD0 / DIO0 / Commiss_But

## ZenerArray2
designator DA?
Сборка TVS-диодов
pins: 1, 2, 3

## Конденсатор кер.
designator C?
Конденсатор кер.
footprint C0603_AA
footprint C0805_AA
pins: 1, 2

## Конденсатор поляризованный
designator C?
Конденсатор пол.
footprint C0603_AA
footprint C0805_AA
pins: 1, 2

## Резистор  0,05Вт
designator R?
Резистор 0,05Вт; Power rating: 0,05Вт
footprint R1206 (Chip Resistor, 2-Leads, Body 3,10x1,60mm, IPC Medium Density)
pins: 1, 2

## Резистор  0,25Вт
designator R?
Резистор 0,25Вт; Power rating: 0,25Вт
footprint R1206 (Chip Resistor, 2-Leads, Body 3,10x1,60mm, IPC Medium Density)
pins: 1, 2

## Резистор  0,125Вт
designator R?
Резистор  0,125Вт; Power rating: 0,125Вт
footprint R0805 (Chip Resistor, 2-Leads, Body 2,10x1,30mm, IPC Medium Density)
pins: 1, 2

## Резистор  0.5 Вт
designator R?
Резистор  1Вт; Power rating: 1Вт
footprint R1206 (Chip Resistor, 2-Leads, Body 3,10x1,60mm, IPC Medium Density)
pins: 1, 2

## Резистор  1Вт
designator R?
Резистор  1Вт; Power rating: 1Вт
footprint R1206 (Chip Resistor, 2-Leads, Body 3,10x1,60mm, IPC Medium Density)
pins: 1, 2

## Резистор  2Вт
designator R?
Резистор  2Вт; Power rating: 2Вт
footprint R1206 (Chip Resistor, 2-Leads, Body 3,10x1,60mm, IPC Medium Density)
pins: 1, 2

## Резисторная сборка х4 0,05
designator R?, comment XXX
Резисторы  0.125Вт; Value: XXX
footprint R0402_A
footprint R0402_H
footprint R0603_H
footprint R0805_A
footprint R0805_H
footprint R1206_A
footprint R1206_H
footprint R1210_A
footprint R1210_H
footprint R2010_A
footprint R2010_H
footprint R2512_A
footprint R2512_H
footprint R0603_A
footprint R0603x4
pins: 1, 2, 3, 4, 5, 6, 7, 8

## Резисторная сборка х4 0,05_реверс
designator R?, comment XXX
Резисторы  0.125Вт; Value: XXX
footprint R0402_A
footprint R0402_H
footprint R0603_H
footprint R0805_A
footprint R0805_H
footprint R1206_A
footprint R1206_H
footprint R1210_A
footprint R1210_H
footprint R2010_A
footprint R2010_H
footprint R2512_A
footprint R2512_H
footprint R0603_A
footprint R0603x4
pins: 1, 2, 3, 4, 5, 6, 7, 8

## Резисторная сборка х4 0,125
designator R?, comment XXX
Резисторы  0.125Вт; Value: XXX
footprint R0402_A
footprint R0402_H
footprint R0603_H
footprint R0805_A
footprint R0805_H
footprint R1206_A
footprint R1206_H
footprint R1210_A
footprint R1210_H
footprint R2010_A
footprint R2010_H
footprint R2512_A
footprint R2512_H
footprint R0603_A
footprint R0603x4
pins: 1, 2, 3, 4, 5, 6, 7, 8

## Термистор NTC
designator RT?
Термистор; Power rating: 0,05Вт
footprint R1206 (Chip Resistor, 2-Leads, Body 3,10x1,60mm, IPC Medium Density)
pins: 1, 2
text: -t°

## Термистор PTC
designator RT?
Термистор; Power rating: 0,05Вт
footprint R1206 (Chip Resistor, 2-Leads, Body 3,10x1,60mm, IPC Medium Density)
pins: 1, 2
text: t°